# Altium integrated library Xilinx XC4000XL.IntLib: 450 symbols (part 6 of 58)
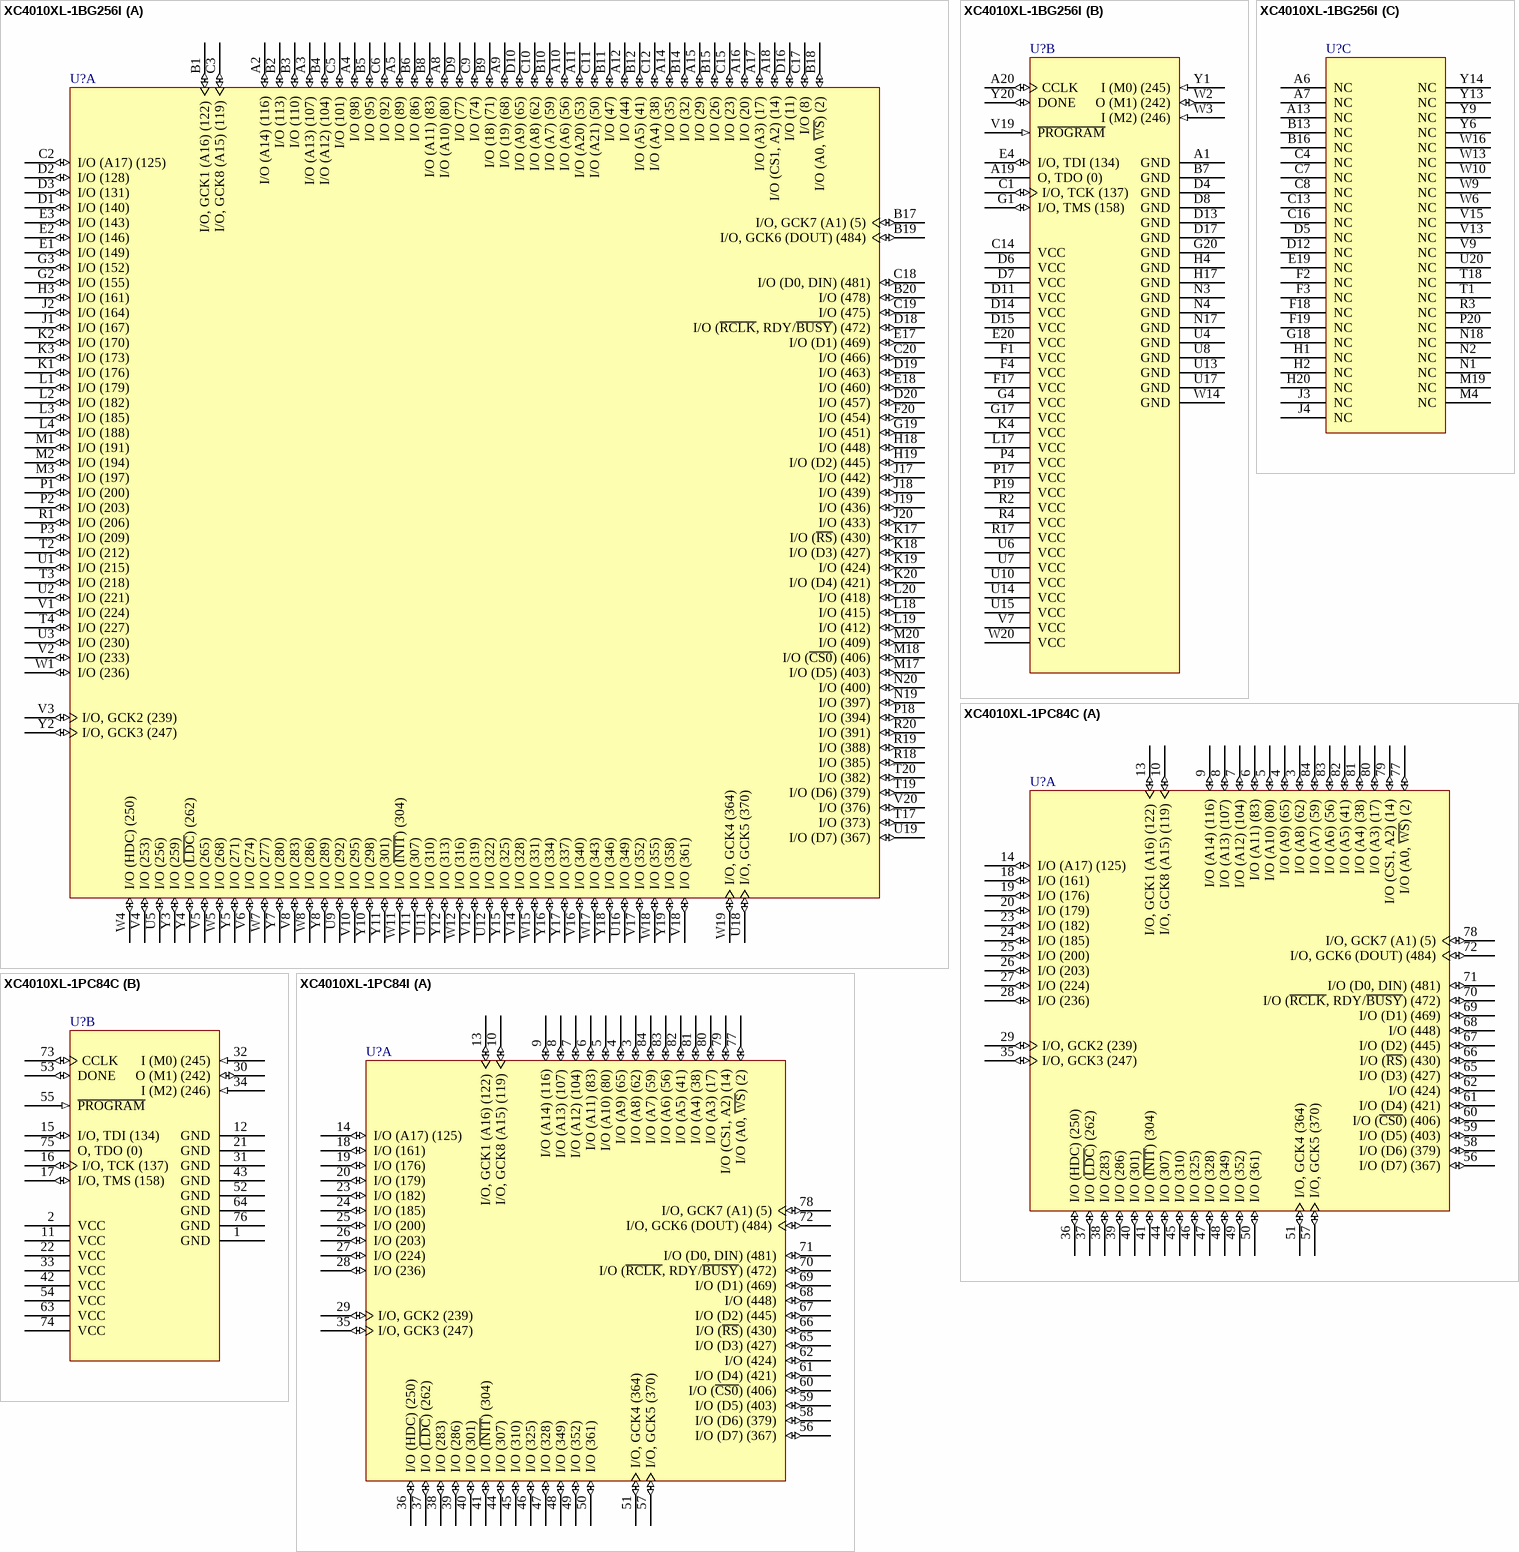
[diagram p404: symbols XC4010XL-1BG256I to XC4010XL-1PC84I]

## XC4010XL-1PC84C
designator U?
XC4000XL FPGA, 61 I/Os, 84-Pin PLCC, Speed Grade 1, Commercial Grade; Published: 28-Feb-2003; LatestRevisionDate: 13-Apr-2006; LatestRevisionNote: IPC-7351 Footprint Added.; DatasheetVersion: ver1.6, May-1999; PackageVersion: ver1.2, Jun-2004; PackageReference: PC84; Publisher: Altium Limited; PackageDescription: 84-Pin Plastic Leaded Chip Carrier (PC84); Supplier 1: Digi-Key; Supplier Part Number 1: XC4010XL-1PC84C-ND; Code_JEDEC: MS-047; Code_IPC: PLCC-84; ComponentLink1Description: XC4000XL Datasheet; ComponentLink1URL: http://www.xilinx.com/support/documentation/data_sheets/4000.pdf; ComponentLink2Description: Discontinuation Notice; ComponentLink2URL: http://www.xilinx.com/support/documentation/customer_notices/pdn2004-21.pdf; ComponentLink3Description: PC84 Package Drawing; ComponentLink3URL: http://www.xilinx.com/support/documentation/package_specs/pc84.pdf; ComponentLink4Description: XC4000 Documents; ComponentLink4URL: http://www.xilinx.com/support/documentation/xc4000.htm; ComponentLink5Description: Xilinx.com Home; ComponentLink5URL: http://www.xilinx.com
footprint PC84_N (Leaded Chip Carrier, 84-Leads, Body 29.3x29.3mm, Pitch 1.27mm, IPC Medium Density)
footprint PC84_L (Leaded Chip Carrier, 84-Leads, Body 29.3x29.3mm, Pitch 1.27mm, IPC High Density)
footprint PC84_M (Leaded Chip Carrier, 84-Leads, Body 29.3x29.3mm, Pitch 1.27mm, IPC Low Density)
part A pins: 3 I/O (A8) (62) (io), 4 I/O (A9) (65) (io), 5 I/O (A10) (80) (io), 6 I/O (A11) (83) (io), 7 I/O (A12) (104) (io), 8 I/O (A13) (107) (io), 9 I/O (A14) (116) (io), 10 I/O, GCK8 (A15) (119) (io), 13 I/O, GCK1 (A16) (122) (io), 14 I/O (A17) (125) (io), 18 I/O (161) (io), 19 I/O (176) (io), 20 I/O (179) (io), 23 I/O (182) (io), 24 I/O (185) (io), 25 I/O (200) (io), 26 I/O (203) (io), 27 I/O (224) (io), 28 I/O (236) (io), 29 I/O, GCK2 (239) (io), 35 I/O, GCK3 (247) (io), 36 I/O (HDC) (250) (io), 37 I/O (~{LDC}) (262) (io), 38 I/O (283) (io), 39 I/O (286) (io), 40 I/O (301) (io), 41 I/O (~{INIT}) (304) (io), 44 I/O (307) (io), 45 I/O (310) (io), 46 I/O (325) (io), 47 I/O (328) (io), 48 I/O (349) (io), 49 I/O (352) (io), 50 I/O (361) (io), 51 I/O, GCK4 (364) (io), 56 I/O (D7) (367) (io), 57 I/O, GCK5 (370) (io), 58 I/O (D6) (379) (io), 59 I/O (D5) (403) (io), 60 I/O (~{CS0}) (406) (io), 61 I/O (D4) (421) (io), 62 I/O (424) (io), 65 I/O (D3) (427) (io), 66 I/O (~{RS}) (430) (io), 67 I/O (D2) (445) (io), 68 I/O (448) (io), 69 I/O (D1) (469) (io), 70 I/O (~{RCLK}, RDY/~{BUSY}) (472) (io), 71 I/O (D0, DIN) (481) (io), 72 I/O, GCK6 (DOUT) (484) (io), 77 I/O (A0, ~{WS}) (2) (io), 78 I/O, GCK7 (A1) (5) (io), 79 I/O (CS1, A2) (14) (io), 80 I/O (A3) (17) (io), 81 I/O (A4) (38) (io), 82 I/O (A5) (41) (io), 83 I/O (A6) (56) (io), 84 I/O (A7) (59) (io)
part B pins: 1 GND (power), 2 VCC (power), 11 VCC (power), 12 GND (power), 15 I/O, TDI (134) (io), 16 I/O, TCK (137) (io), 17 I/O, TMS (158) (io), 21 GND (power), 22 VCC (power), 30 O (M1) (242) (io), 31 GND (power), 32 I (M0) (245) (in), 33 VCC (power), 34 I (M2) (246) (in), 42 VCC (power), 43 GND (power), 52 GND (power), 53 DONE (io), 54 VCC (power), 55 ~{PROGRAM} (in), 63 VCC (power), 64 GND (power), 73 CCLK (io), 74 VCC (power), 75 O, TDO (0) (hiz), 76 GND (power)

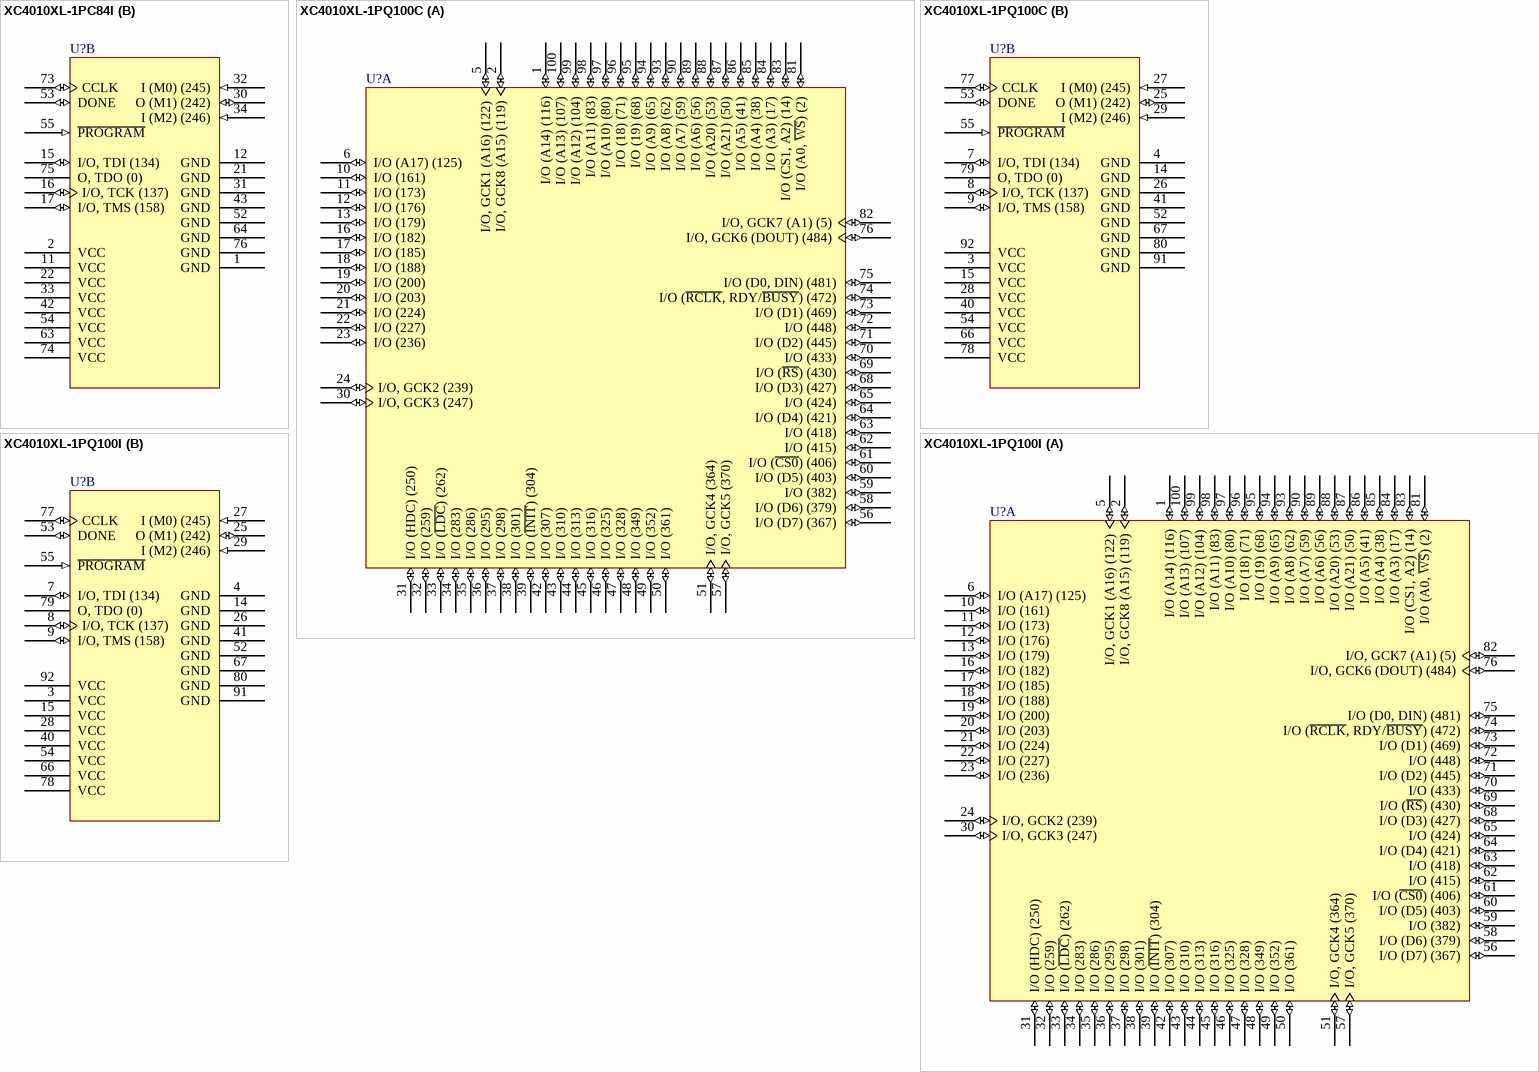
[diagram p29: symbols XC4010XL-1PC84I to XC4010XL-1PQ100I]

## XC4010XL-1PC84I
designator U?
XC4000XL FPGA, 61 I/Os, 84-Pin PLCC, Speed Grade 1, Industrial Grade; Published: 28-Feb-2003; LatestRevisionDate: 13-Apr-2006; LatestRevisionNote: IPC-7351 Footprint Added.; DatasheetVersion: ver1.6, May-1999; PackageVersion: ver1.2, Jun-2004; PackageReference: PC84; Publisher: Altium Limited; PackageDescription: 84-Pin Plastic Leaded Chip Carrier (PC84); Supplier 1: Digi-Key; Supplier Part Number 1: XC4010XL-1PC84I-ND; Code_JEDEC: MS-047; Code_IPC: PLCC-84; ComponentLink1Description: XC4000XL Datasheet; ComponentLink1URL: http://www.xilinx.com/support/documentation/data_sheets/4000.pdf; ComponentLink2Description: Discontinuation Notice; ComponentLink2URL: http://www.xilinx.com/support/documentation/customer_notices/pdn2004-21.pdf; ComponentLink3Description: PC84 Package Drawing; ComponentLink3URL: http://www.xilinx.com/support/documentation/package_specs/pc84.pdf; ComponentLink4Description: XC4000 Documents; ComponentLink4URL: http://www.xilinx.com/support/documentation/xc4000.htm; ComponentLink5Description: Xilinx.com Home; ComponentLink5URL: http://www.xilinx.com
footprint PC84_N (Leaded Chip Carrier, 84-Leads, Body 29.3x29.3mm, Pitch 1.27mm, IPC Medium Density)
footprint PC84_L (Leaded Chip Carrier, 84-Leads, Body 29.3x29.3mm, Pitch 1.27mm, IPC High Density)
footprint PC84_M (Leaded Chip Carrier, 84-Leads, Body 29.3x29.3mm, Pitch 1.27mm, IPC Low Density)
part A pins: 3 I/O (A8) (62) (io), 4 I/O (A9) (65) (io), 5 I/O (A10) (80) (io), 6 I/O (A11) (83) (io), 7 I/O (A12) (104) (io), 8 I/O (A13) (107) (io), 9 I/O (A14) (116) (io), 10 I/O, GCK8 (A15) (119) (io), 13 I/O, GCK1 (A16) (122) (io), 14 I/O (A17) (125) (io), 18 I/O (161) (io), 19 I/O (176) (io), 20 I/O (179) (io), 23 I/O (182) (io), 24 I/O (185) (io), 25 I/O (200) (io), 26 I/O (203) (io), 27 I/O (224) (io), 28 I/O (236) (io), 29 I/O, GCK2 (239) (io), 35 I/O, GCK3 (247) (io), 36 I/O (HDC) (250) (io), 37 I/O (~{LDC}) (262) (io), 38 I/O (283) (io), 39 I/O (286) (io), 40 I/O (301) (io), 41 I/O (~{INIT}) (304) (io), 44 I/O (307) (io), 45 I/O (310) (io), 46 I/O (325) (io), 47 I/O (328) (io), 48 I/O (349) (io), 49 I/O (352) (io), 50 I/O (361) (io), 51 I/O, GCK4 (364) (io), 56 I/O (D7) (367) (io), 57 I/O, GCK5 (370) (io), 58 I/O (D6) (379) (io), 59 I/O (D5) (403) (io), 60 I/O (~{CS0}) (406) (io), 61 I/O (D4) (421) (io), 62 I/O (424) (io), 65 I/O (D3) (427) (io), 66 I/O (~{RS}) (430) (io), 67 I/O (D2) (445) (io), 68 I/O (448) (io), 69 I/O (D1) (469) (io), 70 I/O (~{RCLK}, RDY/~{BUSY}) (472) (io), 71 I/O (D0, DIN) (481) (io), 72 I/O, GCK6 (DOUT) (484) (io), 77 I/O (A0, ~{WS}) (2) (io), 78 I/O, GCK7 (A1) (5) (io), 79 I/O (CS1, A2) (14) (io), 80 I/O (A3) (17) (io), 81 I/O (A4) (38) (io), 82 I/O (A5) (41) (io), 83 I/O (A6) (56) (io), 84 I/O (A7) (59) (io)
part B pins: 1 GND (power), 2 VCC (power), 11 VCC (power), 12 GND (power), 15 I/O, TDI (134) (io), 16 I/O, TCK (137) (io), 17 I/O, TMS (158) (io), 21 GND (power), 22 VCC (power), 30 O (M1) (242) (io), 31 GND (power), 32 I (M0) (245) (in), 33 VCC (power), 34 I (M2) (246) (in), 42 VCC (power), 43 GND (power), 52 GND (power), 53 DONE (io), 54 VCC (power), 55 ~{PROGRAM} (in), 63 VCC (power), 64 GND (power), 73 CCLK (io), 74 VCC (power), 75 O, TDO (0) (hiz), 76 GND (power)

## XC4010XL-1PQ100C
designator U?
XC4000XL FPGA, 77 I/Os, 100-Pin PQFP, Speed Grade 1, Commercial Grade; Published: 28-Feb-2003; LatestRevisionDate: 13-Apr-2006; LatestRevisionNote: IPC-7351 Footprint Added.; DatasheetVersion: ver1.6, May-1999; PackageVersion: ver1.2, Oct-2002; PackageReference: PQ100; Publisher: Altium Limited; PackageDescription: 100-Pin Plastic Quad Flat Pack (PQ100); Supplier 1: Digi-Key; Supplier Part Number 1: XC4010XL-1PQ100C-ND; Code_IPC: QFP65P1720X2320-100; ComponentLink1Description: XC4000XL Datasheet; ComponentLink1URL: http://www.xilinx.com/support/documentation/data_sheets/4000.pdf; ComponentLink2Description: PQ100 Package Drawing; ComponentLink2URL: http://www.xilinx.com/support/documentation/package_specs/pq100.pdf; ComponentLink3Description: XC4000 Documents; ComponentLink3URL: http://www.xilinx.com/support/documentation/xc4000.htm; ComponentLink4Description: Xilinx.com Home; ComponentLink4URL: http://www.xilinx.com
footprint PQ100_N (QFP, 100-Leads, Body 20x14mm, Pitch 0.65mm, IPC Medium Density)
footprint PQ100_L (QFP, 100-Leads, Body 20x14mm, Pitch 0.65mm, IPC High Density)
footprint PQ100_M (QFP, 100-Leads, Body 20x14mm, Pitch 0.65mm, IPC Low Density)
part A pins: 1 I/O (A14) (116) (io), 2 I/O, GCK8 (A15) (119) (io), 5 I/O, GCK1 (A16) (122) (io), 6 I/O (A17) (125) (io), 10 I/O (161) (io), 11 I/O (173) (io), 12 I/O (176) (io), 13 I/O (179) (io), 16 I/O (182) (io), 17 I/O (185) (io), 18 I/O (188) (io), 19 I/O (200) (io), 20 I/O (203) (io), 21 I/O (224) (io), 22 I/O (227) (io), 23 I/O (236) (io), 24 I/O, GCK2 (239) (io), 30 I/O, GCK3 (247) (io), 31 I/O (HDC) (250) (io), 32 I/O (259) (io), 33 I/O (~{LDC}) (262) (io), 34 I/O (283) (io), 35 I/O (286) (io), 36 I/O (295) (io), 37 I/O (298) (io), 38 I/O (301) (io), 39 I/O (~{INIT}) (304) (io), 42 I/O (307) (io), 43 I/O (310) (io), 44 I/O (313) (io), 45 I/O (316) (io), 46 I/O (325) (io), 47 I/O (328) (io), 48 I/O (349) (io), 49 I/O (352) (io), 50 I/O (361) (io), 51 I/O, GCK4 (364) (io), 56 I/O (D7) (367) (io), 57 I/O, GCK5 (370) (io), 58 I/O (D6) (379) (io), 59 I/O (382) (io), 60 I/O (D5) (403) (io), 61 I/O (~{CS0}) (406) (io), 62 I/O (415) (io), 63 I/O (418) (io), 64 I/O (D4) (421) (io), 65 I/O (424) (io), 68 I/O (D3) (427) (io), 69 I/O (~{RS}) (430) (io), 70 I/O (433) (io), 71 I/O (D2) (445) (io), 72 I/O (448) (io), 73 I/O (D1) (469) (io), 74 I/O (~{RCLK}, RDY/~{BUSY}) (472) (io), 75 I/O (D0, DIN) (481) (io), 76 I/O, GCK6 (DOUT) (484) (io), 81 I/O (A0, ~{WS}) (2) (io), 82 I/O, GCK7 (A1) (5) (io), 83 I/O (CS1, A2) (14) (io), 84 I/O (A3) (17) (io), 85 I/O (A4) (38) (io), 86 I/O (A5) (41) (io), 87 I/O (A21) (50) (io), 88 I/O (A20) (53) (io), 89 I/O (A6) (56) (io), 90 I/O (A7) (59) (io), 93 I/O (A8) (62) (io), 94 I/O (A9) (65) (io), 95 I/O (19) (68) (io), 96 I/O (18) (71) (io), 97 I/O (A10) (80) (io), 98 I/O (A11) (83) (io), 99 I/O (A12) (104) (io), 100 I/O (A13) (107) (io)
part B pins: 3 VCC (power), 4 GND (power), 7 I/O, TDI (134) (io), 8 I/O, TCK (137) (io), 9 I/O, TMS (158) (io), 14 GND (power), 15 VCC (power), 25 O (M1) (242) (io), 26 GND (power), 27 I (M0) (245) (in), 28 VCC (power), 29 I (M2) (246) (in), 40 VCC (power), 41 GND (power), 52 GND (power), 53 DONE (io), 54 VCC (power), 55 ~{PROGRAM} (in), 66 VCC (power), 67 GND (power), 77 CCLK (io), 78 VCC (power), 79 O, TDO (0) (hiz), 80 GND (power), 91 GND (power), 92 VCC (power)

## XC4010XL-1PQ100I
designator U?
XC4000XL FPGA, 77 I/Os, 100-Pin PQFP, Speed Grade 1, Industrial Grade; Published: 28-Feb-2003; LatestRevisionDate: 13-Apr-2006; LatestRevisionNote: IPC-7351 Footprint Added.; DatasheetVersion: ver1.6, May-1999; PackageVersion: ver1.2, Oct-2002; PackageReference: PQ100; Publisher: Altium Limited; PackageDescription: 100-Pin Plastic Quad Flat Pack (PQ100); Supplier 1: Digi-Key; Supplier Part Number 1: XC4010XL-1PQ100I-ND; Code_IPC: QFP65P1720X2320-100; ComponentLink1Description: XC4000XL Datasheet; ComponentLink1URL: http://www.xilinx.com/support/documentation/data_sheets/4000.pdf; ComponentLink2Description: PQ100 Package Drawing; ComponentLink2URL: http://www.xilinx.com/support/documentation/package_specs/pq100.pdf; ComponentLink3Description: XC4000 Documents; ComponentLink3URL: http://www.xilinx.com/support/documentation/xc4000.htm; ComponentLink4Description: Xilinx.com Home; ComponentLink4URL: http://www.xilinx.com
footprint PQ100_N (QFP, 100-Leads, Body 20x14mm, Pitch 0.65mm, IPC Medium Density)
footprint PQ100_L (QFP, 100-Leads, Body 20x14mm, Pitch 0.65mm, IPC High Density)
footprint PQ100_M (QFP, 100-Leads, Body 20x14mm, Pitch 0.65mm, IPC Low Density)
part A pins: 1 I/O (A14) (116) (io), 2 I/O, GCK8 (A15) (119) (io), 5 I/O, GCK1 (A16) (122) (io), 6 I/O (A17) (125) (io), 10 I/O (161) (io), 11 I/O (173) (io), 12 I/O (176) (io), 13 I/O (179) (io), 16 I/O (182) (io), 17 I/O (185) (io), 18 I/O (188) (io), 19 I/O (200) (io), 20 I/O (203) (io), 21 I/O (224) (io), 22 I/O (227) (io), 23 I/O (236) (io), 24 I/O, GCK2 (239) (io), 30 I/O, GCK3 (247) (io), 31 I/O (HDC) (250) (io), 32 I/O (259) (io), 33 I/O (~{LDC}) (262) (io), 34 I/O (283) (io), 35 I/O (286) (io), 36 I/O (295) (io), 37 I/O (298) (io), 38 I/O (301) (io), 39 I/O (~{INIT}) (304) (io), 42 I/O (307) (io), 43 I/O (310) (io), 44 I/O (313) (io), 45 I/O (316) (io), 46 I/O (325) (io), 47 I/O (328) (io), 48 I/O (349) (io), 49 I/O (352) (io), 50 I/O (361) (io), 51 I/O, GCK4 (364) (io), 56 I/O (D7) (367) (io), 57 I/O, GCK5 (370) (io), 58 I/O (D6) (379) (io), 59 I/O (382) (io), 60 I/O (D5) (403) (io), 61 I/O (~{CS0}) (406) (io), 62 I/O (415) (io), 63 I/O (418) (io), 64 I/O (D4) (421) (io), 65 I/O (424) (io), 68 I/O (D3) (427) (io), 69 I/O (~{RS}) (430) (io), 70 I/O (433) (io), 71 I/O (D2) (445) (io), 72 I/O (448) (io), 73 I/O (D1) (469) (io), 74 I/O (~{RCLK}, RDY/~{BUSY}) (472) (io), 75 I/O (D0, DIN) (481) (io), 76 I/O, GCK6 (DOUT) (484) (io), 81 I/O (A0, ~{WS}) (2) (io), 82 I/O, GCK7 (A1) (5) (io), 83 I/O (CS1, A2) (14) (io), 84 I/O (A3) (17) (io), 85 I/O (A4) (38) (io), 86 I/O (A5) (41) (io), 87 I/O (A21) (50) (io), 88 I/O (A20) (53) (io), 89 I/O (A6) (56) (io), 90 I/O (A7) (59) (io), 93 I/O (A8) (62) (io), 94 I/O (A9) (65) (io), 95 I/O (19) (68) (io), 96 I/O (18) (71) (io), 97 I/O (A10) (80) (io), 98 I/O (A11) (83) (io), 99 I/O (A12) (104) (io), 100 I/O (A13) (107) (io)
part B pins: 3 VCC (power), 4 GND (power), 7 I/O, TDI (134) (io), 8 I/O, TCK (137) (io), 9 I/O, TMS (158) (io), 14 GND (power), 15 VCC (power), 25 O (M1) (242) (io), 26 GND (power), 27 I (M0) (245) (in), 28 VCC (power), 29 I (M2) (246) (in), 40 VCC (power), 41 GND (power), 52 GND (power), 53 DONE (io), 54 VCC (power), 55 ~{PROGRAM} (in), 66 VCC (power), 67 GND (power), 77 CCLK (io), 78 VCC (power), 79 O, TDO (0) (hiz), 80 GND (power), 91 GND (power), 92 VCC (power)

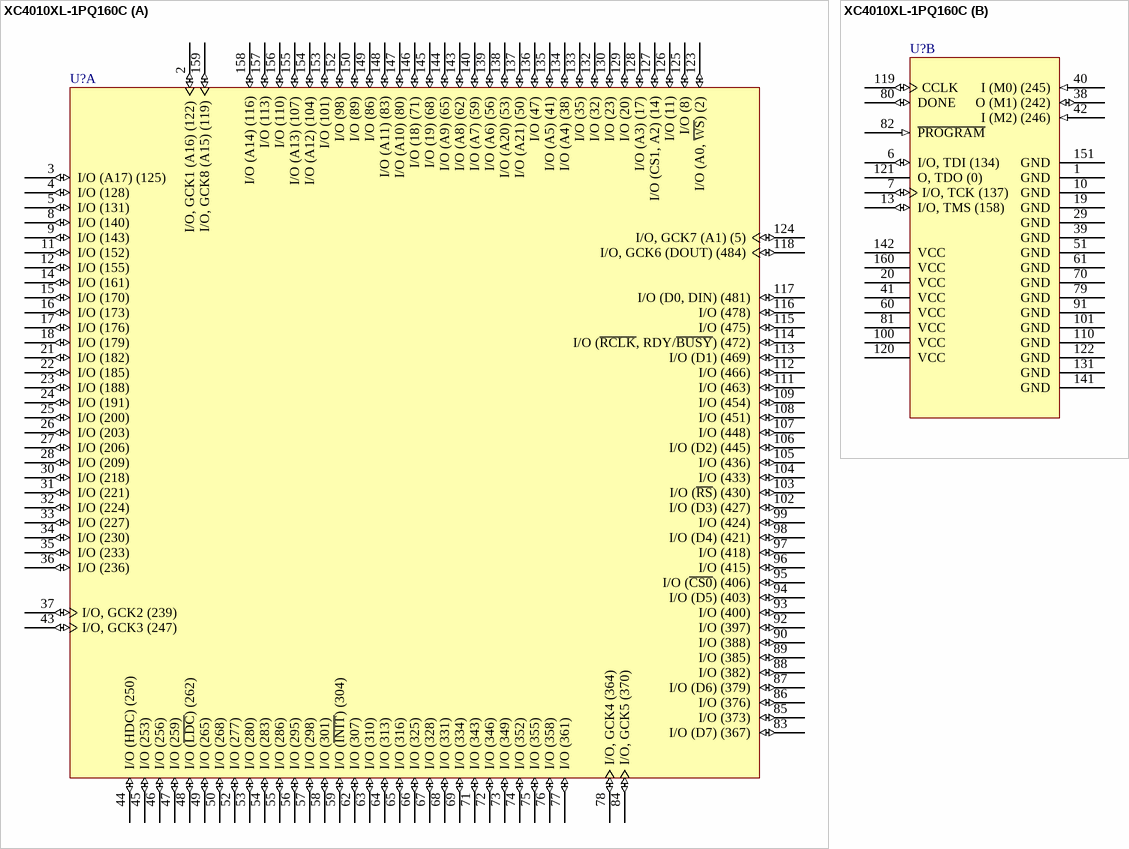
[diagram p30: symbol XC4010XL-1PQ160C]

## XC4010XL-1PQ160C
designator U?
XC4000XL FPGA, 129 I/Os, 160-Pin PQFP, Speed Grade 1, Commercial Grade; Published: 28-Feb-2003; LatestRevisionDate: 13-Apr-2006; LatestRevisionNote: IPC-7351 Footprint Added.; DatasheetVersion: ver1.6, May-1999; PackageVersion: ver1.2, Jun-2004; PackageReference: PQ160; Publisher: Altium Limited; PackageDescription: 160-Pin Plastic Quad Flat Pack (PQ160); Supplier 1: Digi-Key; Supplier Part Number 1: XC4010XL-1PQ160C-ND; Code_JEDEC: MS-022-DD1; Code_IPC: QFP65P3120X3120-160; ComponentLink1Description: XC4000XL Datasheet; ComponentLink1URL: http://www.xilinx.com/support/documentation/data_sheets/4000.pdf; ComponentLink2Description: Discontinuation Notice; ComponentLink2URL: http://www.xilinx.com/support/documentation/customer_notices/pdn2004-21.pdf; ComponentLink3Description: PQ160 Package Drawing; ComponentLink3URL: http://www.xilinx.com/support/documentation/package_specs/pq160.pdf; ComponentLink4Description: XC4000 Documents; ComponentLink4URL: http://www.xilinx.com/support/documentation/xc4000.htm; ComponentLink5Description: Xilinx.com Home; ComponentLink5URL: http://www.xilinx.com
footprint PQ160_N (QFP, 160-Leads, Body 28x28mm, Pitch 0.65mm, IPC Medium Density)
footprint PQ160_L (QFP, 160-Leads, Body 28x28mm, Pitch 0.65mm, IPC High Density)
footprint PQ160_M (QFP, 160-Leads, Body 28x28mm, Pitch 0.65mm, IPC Low Density)
part A pins: 2 I/O, GCK1 (A16) (122) (io), 3 I/O (A17) (125) (io), 4 I/O (128) (io), 5 I/O (131) (io), 8 I/O (140) (io), 9 I/O (143) (io), 11 I/O (152) (io), 12 I/O (155) (io), 14 I/O (161) (io), 15 I/O (170) (io), 16 I/O (173) (io), 17 I/O (176) (io), 18 I/O (179) (io), 21 I/O (182) (io), 22 I/O (185) (io), 23 I/O (188) (io), 24 I/O (191) (io), 25 I/O (200) (io), 26 I/O (203) (io), 27 I/O (206) (io), 28 I/O (209) (io), 30 I/O (218) (io), 31 I/O (221) (io), 32 I/O (224) (io), 33 I/O (227) (io), 34 I/O (230) (io), 35 I/O (233) (io), 36 I/O (236) (io), 37 I/O, GCK2 (239) (io), 43 I/O, GCK3 (247) (io), 44 I/O (HDC) (250) (io), 45 I/O (253) (io), 46 I/O (256) (io), 47 I/O (259) (io), 48 I/O (~{LDC}) (262) (io), 49 I/O (265) (io), 50 I/O (268) (io), 52 I/O (277) (io), 53 I/O (280) (io), 54 I/O (283) (io), 55 I/O (286) (io), 56 I/O (295) (io), 57 I/O (298) (io), 58 I/O (301) (io), 59 I/O (~{INIT}) (304) (io), 62 I/O (307) (io), 63 I/O (310) (io), 64 I/O (313) (io), 65 I/O (316) (io), 66 I/O (325) (io), 67 I/O (328) (io), 68 I/O (331) (io), 69 I/O (334) (io), 71 I/O (343) (io), 72 I/O (346) (io), 73 I/O (349) (io), 74 I/O (352) (io), 75 I/O (355) (io), 76 I/O (358) (io), 77 I/O (361) (io), 78 I/O, GCK4 (364) (io), 83 I/O (D7) (367) (io), 84 I/O, GCK5 (370) (io), 85 I/O (373) (io), 86 I/O (376) (io), 87 I/O (D6) (379) (io), 88 I/O (382) (io), 89 I/O (385) (io), 90 I/O (388) (io), 92 I/O (397) (io), 93 I/O (400) (io), 94 I/O (D5) (403) (io), 95 I/O (~{CS0}) (406) (io), 96 I/O (415) (io), 97 I/O (418) (io), 98 I/O (D4) (421) (io), 99 I/O (424) (io), 102 I/O (D3) (427) (io), 103 I/O (~{RS}) (430) (io), 104 I/O (433) (io), 105 I/O (436) (io), 106 I/O (D2) (445) (io), 107 I/O (448) (io), 108 I/O (451) (io), 109 I/O (454) (io), 111 I/O (463) (io), 112 I/O (466) (io), 113 I/O (D1) (469) (io), 114 I/O (~{RCLK}, RDY/~{BUSY}) (472) (io), 115 I/O (475) (io), 116 I/O (478) (io), 117 I/O (D0, DIN) (481) (io), 118 I/O, GCK6 (DOUT) (484) (io), 123 I/O (A0, ~{WS}) (2) (io), 124 I/O, GCK7 (A1) (5) (io), 125 I/O (8) (io), 126 I/O (11) (io), 127 I/O (CS1, A2) (14) (io), 128 I/O (A3) (17) (io), 129 I/O (20) (io), 130 I/O (23) (io), 132 I/O (32) (io), 133 I/O (35) (io), 134 I/O (A4) (38) (io), 135 I/O (A5) (41) (io), 136 I/O (47) (io), 137 I/O (A21) (50) (io), 138 I/O (A20) (53) (io), 139 I/O (A6) (56) (io), 140 I/O (A7) (59) (io), 143 I/O (A8) (62) (io), 144 I/O (A9) (65) (io), 145 I/O (19) (68) (io), 146 I/O (18) (71) (io), 147 I/O (A10) (80) (io), 148 I/O (A11) (83) (io), 149 I/O (86) (io), 150 I/O (89) (io), 152 I/O (98) (io), 153 I/O (101) (io), 154 I/O (A12) (104) (io), 155 I/O (A13) (107) (io), 156 I/O (110) (io), 157 I/O (113) (io), 158 I/O (A14) (116) (io), 159 I/O, GCK8 (A15) (119) (io)
part B pins: 1 GND (power), 6 I/O, TDI (134) (io), 7 I/O, TCK (137) (io), 10 GND (power), 13 I/O, TMS (158) (io), 19 GND (power), 20 VCC (power), 29 GND (power), 38 O (M1) (242) (io), 39 GND (power), 40 I (M0) (245) (in), 41 VCC (power), 42 I (M2) (246) (in), 51 GND (power), 60 VCC (power), 61 GND (power), 70 GND (power), 79 GND (power), 80 DONE (io), 81 VCC (power), 82 ~{PROGRAM} (in), 91 GND (power), 100 VCC (power), 101 GND (power), 110 GND (power), 119 CCLK (io), 120 VCC (power), 121 O, TDO (0) (hiz), 122 GND (power), 131 GND (power), 141 GND (power), 142 VCC (power), 151 GND (power), 160 VCC (power)

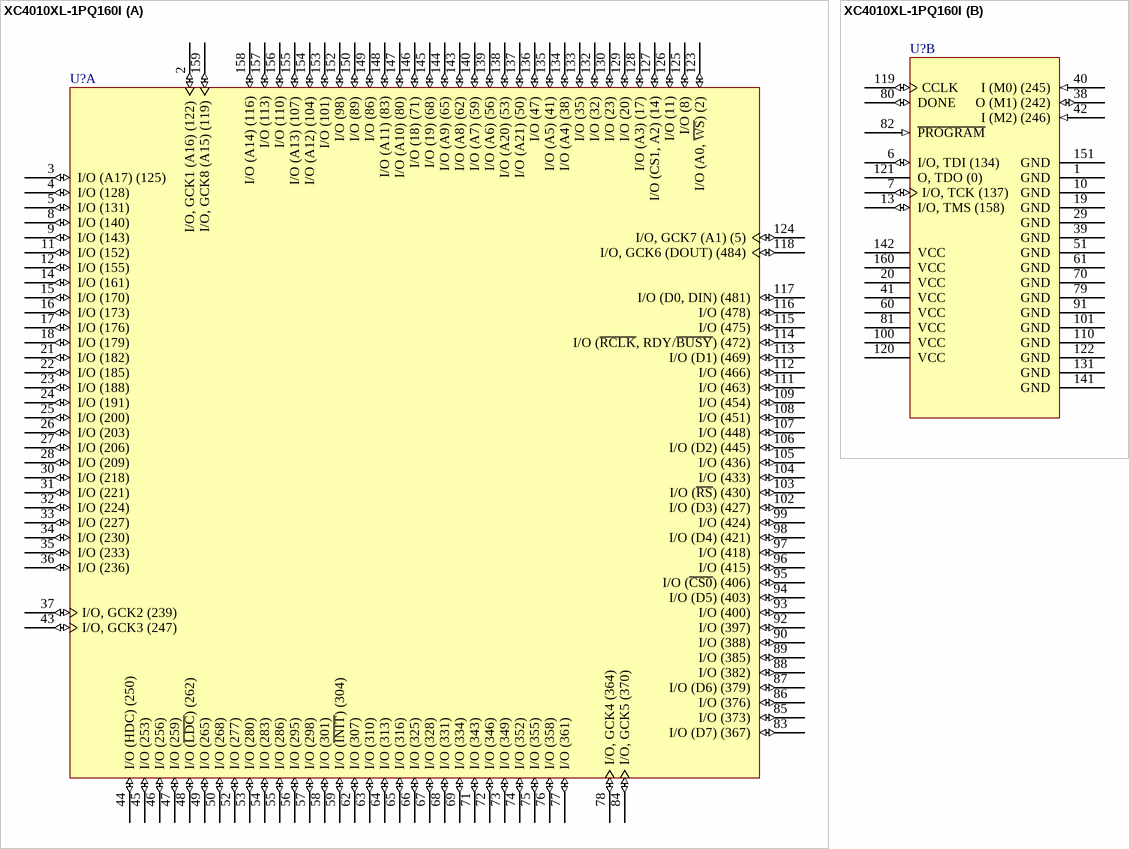
[diagram p31: symbol XC4010XL-1PQ160I]

## XC4010XL-1PQ160I
designator U?
XC4000XL FPGA, 129 I/Os, 160-Pin PQFP, Speed Grade 1, Industrial Grade; Published: 28-Feb-2003; LatestRevisionDate: 13-Apr-2006; LatestRevisionNote: IPC-7351 Footprint Added.; DatasheetVersion: ver1.6, May-1999; PackageVersion: ver1.2, Jun-2004; PackageReference: PQ160; Publisher: Altium Limited; PackageDescription: 160-Pin Plastic Quad Flat Pack (PQ160); Supplier 1: Digi-Key; Supplier Part Number 1: XC4010XL-1PQ160I-ND; Code_JEDEC: MS-022-DD1; Code_IPC: QFP65P3120X3120-160; ComponentLink1Description: XC4000XL Datasheet; ComponentLink1URL: http://www.xilinx.com/support/documentation/data_sheets/4000.pdf; ComponentLink2Description: Discontinuation Notice; ComponentLink2URL: http://www.xilinx.com/support/documentation/customer_notices/pdn2004-21.pdf; ComponentLink3Description: PQ160 Package Drawing; ComponentLink3URL: http://www.xilinx.com/support/documentation/package_specs/pq160.pdf; ComponentLink4Description: XC4000 Documents; ComponentLink4URL: http://www.xilinx.com/support/documentation/xc4000.htm; ComponentLink5Description: Xilinx.com Home; ComponentLink5URL: http://www.xilinx.com
footprint PQ160_N (QFP, 160-Leads, Body 28x28mm, Pitch 0.65mm, IPC Medium Density)
footprint PQ160_L (QFP, 160-Leads, Body 28x28mm, Pitch 0.65mm, IPC High Density)
footprint PQ160_M (QFP, 160-Leads, Body 28x28mm, Pitch 0.65mm, IPC Low Density)
part A pins: 2 I/O, GCK1 (A16) (122) (io), 3 I/O (A17) (125) (io), 4 I/O (128) (io), 5 I/O (131) (io), 8 I/O (140) (io), 9 I/O (143) (io), 11 I/O (152) (io), 12 I/O (155) (io), 14 I/O (161) (io), 15 I/O (170) (io), 16 I/O (173) (io), 17 I/O (176) (io), 18 I/O (179) (io), 21 I/O (182) (io), 22 I/O (185) (io), 23 I/O (188) (io), 24 I/O (191) (io), 25 I/O (200) (io), 26 I/O (203) (io), 27 I/O (206) (io), 28 I/O (209) (io), 30 I/O (218) (io), 31 I/O (221) (io), 32 I/O (224) (io), 33 I/O (227) (io), 34 I/O (230) (io), 35 I/O (233) (io), 36 I/O (236) (io), 37 I/O, GCK2 (239) (io), 43 I/O, GCK3 (247) (io), 44 I/O (HDC) (250) (io), 45 I/O (253) (io), 46 I/O (256) (io), 47 I/O (259) (io), 48 I/O (~{LDC}) (262) (io), 49 I/O (265) (io), 50 I/O (268) (io), 52 I/O (277) (io), 53 I/O (280) (io), 54 I/O (283) (io), 55 I/O (286) (io), 56 I/O (295) (io), 57 I/O (298) (io), 58 I/O (301) (io), 59 I/O (~{INIT}) (304) (io), 62 I/O (307) (io), 63 I/O (310) (io), 64 I/O (313) (io), 65 I/O (316) (io), 66 I/O (325) (io), 67 I/O (328) (io), 68 I/O (331) (io), 69 I/O (334) (io), 71 I/O (343) (io), 72 I/O (346) (io), 73 I/O (349) (io), 74 I/O (352) (io), 75 I/O (355) (io), 76 I/O (358) (io), 77 I/O (361) (io), 78 I/O, GCK4 (364) (io), 83 I/O (D7) (367) (io), 84 I/O, GCK5 (370) (io), 85 I/O (373) (io), 86 I/O (376) (io), 87 I/O (D6) (379) (io), 88 I/O (382) (io), 89 I/O (385) (io), 90 I/O (388) (io), 92 I/O (397) (io), 93 I/O (400) (io), 94 I/O (D5) (403) (io), 95 I/O (~{CS0}) (406) (io), 96 I/O (415) (io), 97 I/O (418) (io), 98 I/O (D4) (421) (io), 99 I/O (424) (io), 102 I/O (D3) (427) (io), 103 I/O (~{RS}) (430) (io), 104 I/O (433) (io), 105 I/O (436) (io), 106 I/O (D2) (445) (io), 107 I/O (448) (io), 108 I/O (451) (io), 109 I/O (454) (io), 111 I/O (463) (io), 112 I/O (466) (io), 113 I/O (D1) (469) (io), 114 I/O (~{RCLK}, RDY/~{BUSY}) (472) (io), 115 I/O (475) (io), 116 I/O (478) (io), 117 I/O (D0, DIN) (481) (io), 118 I/O, GCK6 (DOUT) (484) (io), 123 I/O (A0, ~{WS}) (2) (io), 124 I/O, GCK7 (A1) (5) (io), 125 I/O (8) (io), 126 I/O (11) (io), 127 I/O (CS1, A2) (14) (io), 128 I/O (A3) (17) (io), 129 I/O (20) (io), 130 I/O (23) (io), 132 I/O (32) (io), 133 I/O (35) (io), 134 I/O (A4) (38) (io), 135 I/O (A5) (41) (io), 136 I/O (47) (io), 137 I/O (A21) (50) (io), 138 I/O (A20) (53) (io), 139 I/O (A6) (56) (io), 140 I/O (A7) (59) (io), 143 I/O (A8) (62) (io), 144 I/O (A9) (65) (io), 145 I/O (19) (68) (io), 146 I/O (18) (71) (io), 147 I/O (A10) (80) (io), 148 I/O (A11) (83) (io), 149 I/O (86) (io), 150 I/O (89) (io), 152 I/O (98) (io), 153 I/O (101) (io), 154 I/O (A12) (104) (io), 155 I/O (A13) (107) (io), 156 I/O (110) (io), 157 I/O (113) (io), 158 I/O (A14) (116) (io), 159 I/O, GCK8 (A15) (119) (io)
part B pins: 1 GND (power), 6 I/O, TDI (134) (io), 7 I/O, TCK (137) (io), 10 GND (power), 13 I/O, TMS (158) (io), 19 GND (power), 20 VCC (power), 29 GND (power), 38 O (M1) (242) (io), 39 GND (power), 40 I (M0) (245) (in), 41 VCC (power), 42 I (M2) (246) (in), 51 GND (power), 60 VCC (power), 61 GND (power), 70 GND (power), 79 GND (power), 80 DONE (io), 81 VCC (power), 82 ~{PROGRAM} (in), 91 GND (power), 100 VCC (power), 101 GND (power), 110 GND (power), 119 CCLK (io), 120 VCC (power), 121 O, TDO (0) (hiz), 122 GND (power), 131 GND (power), 141 GND (power), 142 VCC (power), 151 GND (power), 160 VCC (power)

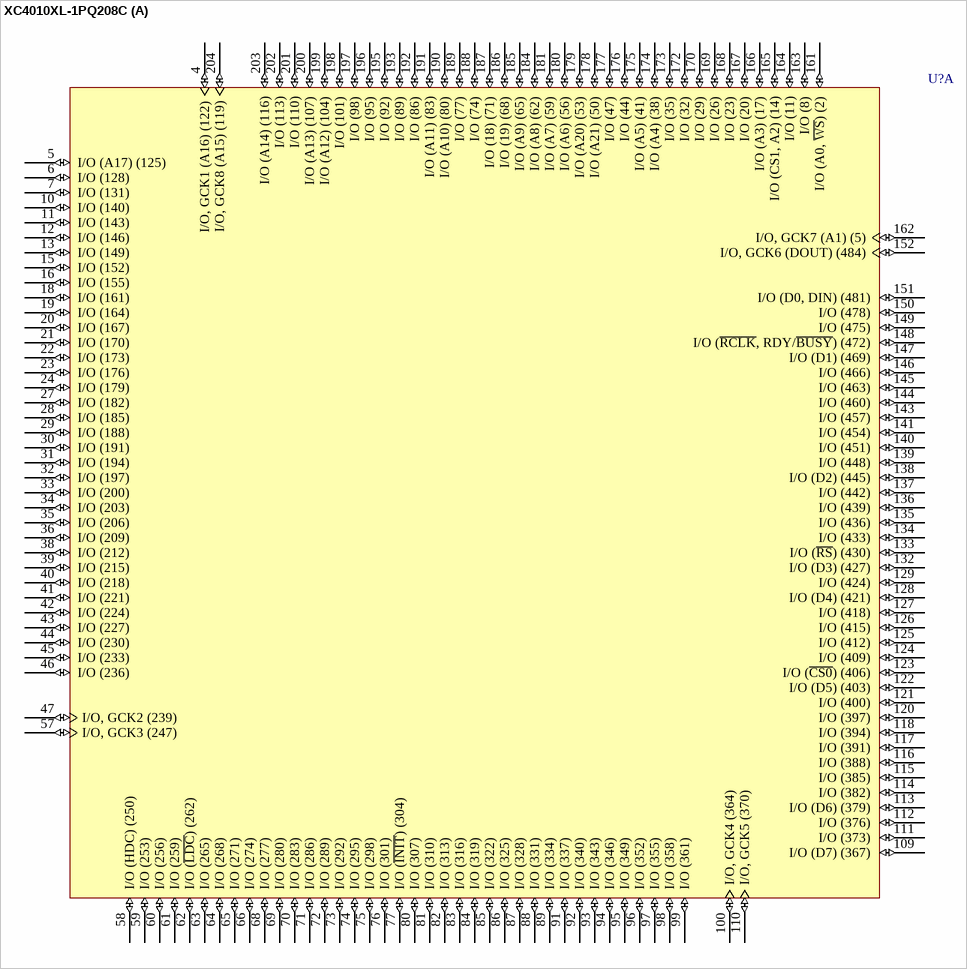
[diagram p32: symbol XC4010XL-1PQ208C]

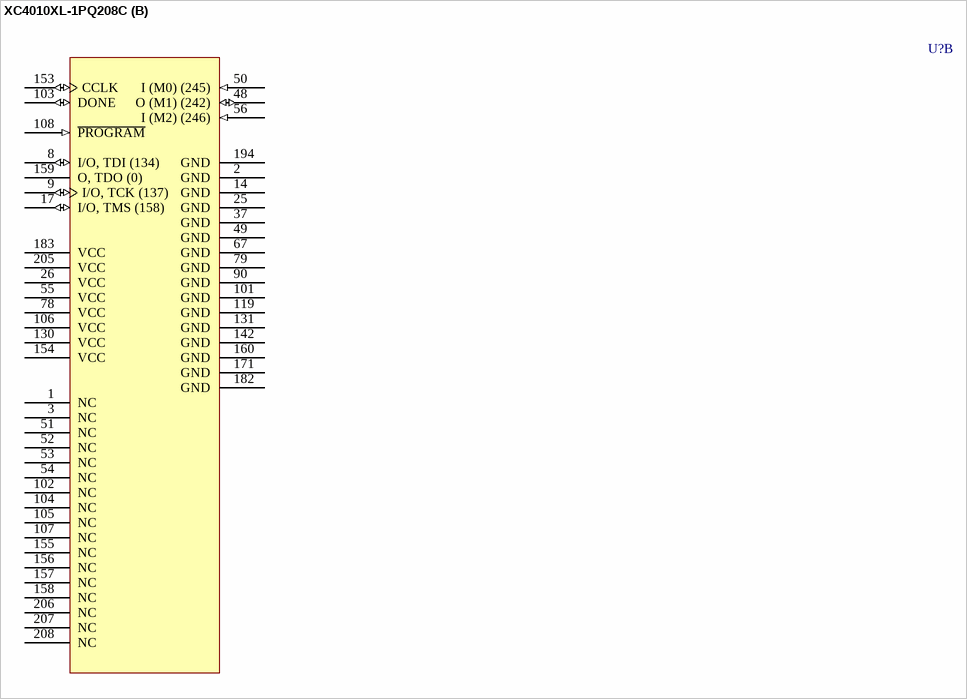
[diagram p33: symbol XC4010XL-1PQ208C]

## XC4010XL-1PQ208C
designator U?
XC4000XL FPGA, 160 I/Os, 208-Pin PQFP, Speed Grade 1, Commercial Grade; Published: 28-Feb-2003; LatestRevisionDate: 13-Apr-2006; LatestRevisionNote: IPC-7351 Footprint Added.; DatasheetVersion: ver1.6, May-1999; PackageVersion: ver1.2, Jun-2004; PackageReference: PQ208; Publisher: Altium Limited; PackageDescription: 208-Pin Plastic Quad Flat Pack (PQ208); Supplier 1: Digi-Key; Supplier Part Number 1: XC4010XL-1PQ208C-ND; Code_JEDEC: MS-029-FA-1; ComponentLink1Description: XC4000XL Datasheet; ComponentLink1URL: http://www.xilinx.com/support/documentation/data_sheets/4000.pdf; ComponentLink2Description: PQ208 Package Drawing; ComponentLink2URL: http://www.xilinx.com/support/documentation/package_specs/pq208.pdf; ComponentLink3Description: XC4000 Documents; ComponentLink3URL: http://www.xilinx.com/support/documentation/xc4000.htm; ComponentLink4Description: Xilinx.com Home; ComponentLink4URL: http://www.xilinx.com
footprint PQ208_N (Shrink QFP, 208-Leads, Body 28x28mm, Pitch 0.5mm, IPC Medium Density)
footprint PQ208_L (Shrink QFP, 208-Leads, Body 28x28mm, Pitch 0.5mm, IPC High Density)
footprint PQ208_M (Shrink QFP, 208-Leads, Body 28x28mm, Pitch 0.5mm, IPC Low Density)
part A pins: 4 I/O, GCK1 (A16) (122) (io), 5 I/O (A17) (125) (io), 6 I/O (128) (io), 7 I/O (131) (io), 10 I/O (140) (io), 11 I/O (143) (io), 12 I/O (146) (io), 13 I/O (149) (io), 15 I/O (152) (io), 16 I/O (155) (io), 18 I/O (161) (io), 19 I/O (164) (io), 20 I/O (167) (io), 21 I/O (170) (io), 22 I/O (173) (io), 23 I/O (176) (io), 24 I/O (179) (io), 27 I/O (182) (io), 28 I/O (185) (io), 29 I/O (188) (io), 30 I/O (191) (io), 31 I/O (194) (io), 32 I/O (197) (io), 33 I/O (200) (io), 34 I/O (203) (io), 35 I/O (206) (io), 36 I/O (209) (io), 38 I/O (212) (io), 39 I/O (215) (io), 40 I/O (218) (io), 41 I/O (221) (io), 42 I/O (224) (io), 43 I/O (227) (io), 44 I/O (230) (io), 45 I/O (233) (io), 46 I/O (236) (io), 47 I/O, GCK2 (239) (io), 57 I/O, GCK3 (247) (io), 58 I/O (HDC) (250) (io), 59 I/O (253) (io), 60 I/O (256) (io), 61 I/O (259) (io), 62 I/O (~{LDC}) (262) (io), 63 I/O (265) (io), 64 I/O (268) (io), 65 I/O (271) (io), 66 I/O (274) (io), 68 I/O (277) (io), 69 I/O (280) (io), 70 I/O (283) (io), 71 I/O (286) (io), 72 I/O (289) (io), 73 I/O (292) (io), 74 I/O (295) (io), 75 I/O (298) (io), 76 I/O (301) (io), 77 I/O (~{INIT}) (304) (io), 80 I/O (307) (io), 81 I/O (310) (io), 82 I/O (313) (io), 83 I/O (316) (io), 84 I/O (319) (io), 85 I/O (322) (io), 86 I/O (325) (io), 87 I/O (328) (io), 88 I/O (331) (io), 89 I/O (334) (io), 91 I/O (337) (io), 92 I/O (340) (io), 93 I/O (343) (io), 94 I/O (346) (io), 95 I/O (349) (io), 96 I/O (352) (io), 97 I/O (355) (io), 98 I/O (358) (io), 99 I/O (361) (io), 100 I/O, GCK4 (364) (io), 109 I/O (D7) (367) (io), 110 I/O, GCK5 (370) (io), 111 I/O (373) (io), 112 I/O (376) (io), 113 I/O (D6) (379) (io), 114 I/O (382) (io), 115 I/O (385) (io), 116 I/O (388) (io), 117 I/O (391) (io), 118 I/O (394) (io), 120 I/O (397) (io), 121 I/O (400) (io), 122 I/O (D5) (403) (io), 123 I/O (~{CS0}) (406) (io), 124 I/O (409) (io), 125 I/O (412) (io), 126 I/O (415) (io), 127 I/O (418) (io), 128 I/O (D4) (421) (io), 129 I/O (424) (io), 132 I/O (D3) (427) (io), 133 I/O (~{RS}) (430) (io), 134 I/O (433) (io), 135 I/O (436) (io), 136 I/O (439) (io), 137 I/O (442) (io), 138 I/O (D2) (445) (io), 139 I/O (448) (io), 140 I/O (451) (io), 141 I/O (454) (io), 143 I/O (457) (io), 144 I/O (460) (io), 145 I/O (463) (io), 146 I/O (466) (io), 147 I/O (D1) (469) (io), 148 I/O (~{RCLK}, RDY/~{BUSY}) (472) (io), 149 I/O (475) (io), 150 I/O (478) (io), 151 I/O (D0, DIN) (481) (io), 152 I/O, GCK6 (DOUT) (484) (io), 161 I/O (A0, ~{WS}) (2) (io), 162 I/O, GCK7 (A1) (5) (io), 163 I/O (8) (io), 164 I/O (11) (io), 165 I/O (CS1, A2) (14) (io), 166 I/O (A3) (17) (io), 167 I/O (20) (io), 168 I/O (23) (io), 169 I/O (26) (io), 170 I/O (29) (io), 172 I/O (32) (io), 173 I/O (35) (io), 174 I/O (A4) (38) (io), 175 I/O (A5) (41) (io), 176 I/O (44) (io), 177 I/O (47) (io), 178 I/O (A21) (50) (io), 179 I/O (A20) (53) (io), 180 I/O (A6) (56) (io), 181 I/O (A7) (59) (io), 184 I/O (A8) (62) (io), 185 I/O (A9) (65) (io), 186 I/O (19) (68) (io), 187 I/O (18) (71) (io), 188 I/O (74) (io), 189 I/O (77) (io), 190 I/O (A10) (80) (io), 191 I/O (A11) (83) (io), 192 I/O (86) (io), 193 I/O (89) (io), 195 I/O (92) (io), 196 I/O (95) (io), 197 I/O (98) (io), 198 I/O (101) (io), 199 I/O (A12) (104) (io), 200 I/O (A13) (107) (io), 201 I/O (110) (io), 202 I/O (113) (io), 203 I/O (A14) (116) (io), 204 I/O, GCK8 (A15) (119) (io)
part B pins: 1 NC, 2 GND (power), 3 NC, 8 I/O, TDI (134) (io), 9 I/O, TCK (137) (io), 14 GND (power), 17 I/O, TMS (158) (io), 25 GND (power), 26 VCC (power), 37 GND (power), 48 O (M1) (242) (io), 49 GND (power), 50 I (M0) (245) (in), 51 NC, 52 NC, 53 NC, 54 NC, 55 VCC (power), 56 I (M2) (246) (in), 67 GND (power), 78 VCC (power), 79 GND (power), 90 GND (power), 101 GND (power), 102 NC, 103 DONE (io), 104 NC, 105 NC, 106 VCC (power), 107 NC, 108 ~{PROGRAM} (in), 119 GND (power), 130 VCC (power), 131 GND (power), 142 GND (power), 153 CCLK (io), 154 VCC (power), 155 NC, 156 NC, 157 NC, 158 NC, 159 O, TDO (0) (hiz), 160 GND (power), 171 GND (power), 182 GND (power), 183 VCC (power), 194 GND (power), 205 VCC (power), 206 NC, 207 NC, 208 NC

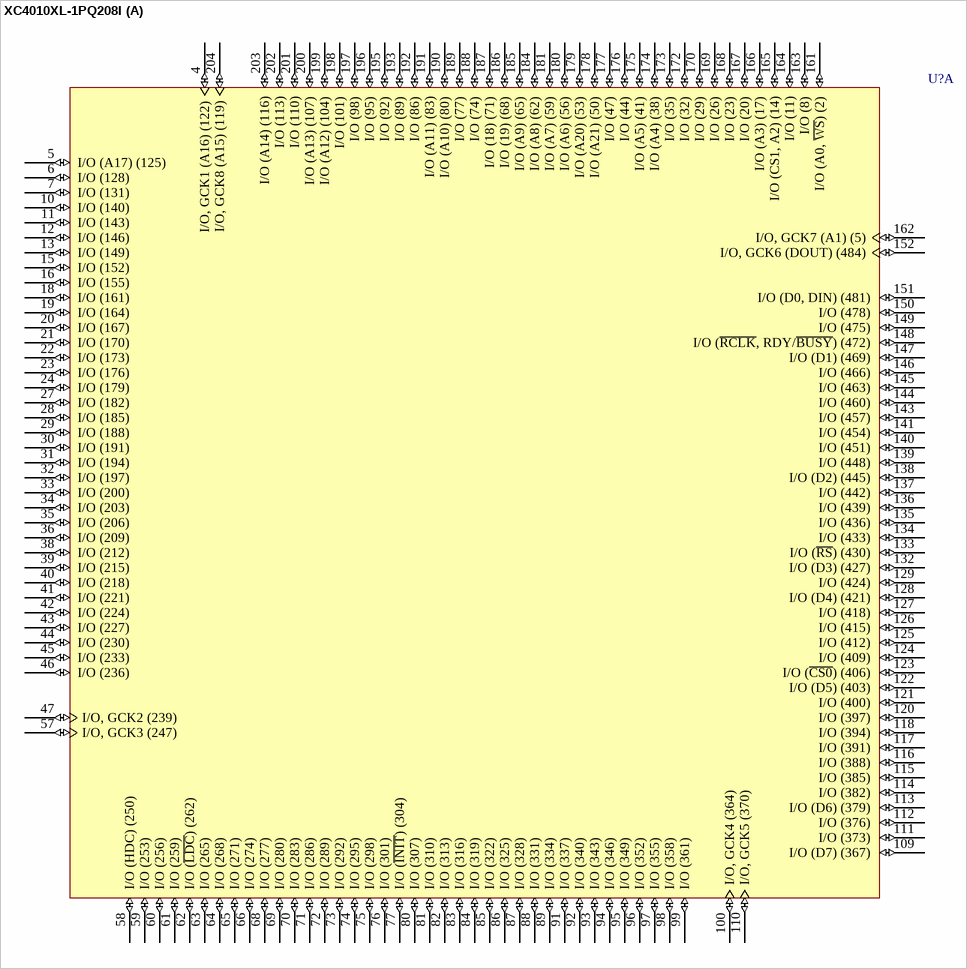
[diagram p34: symbol XC4010XL-1PQ208I]

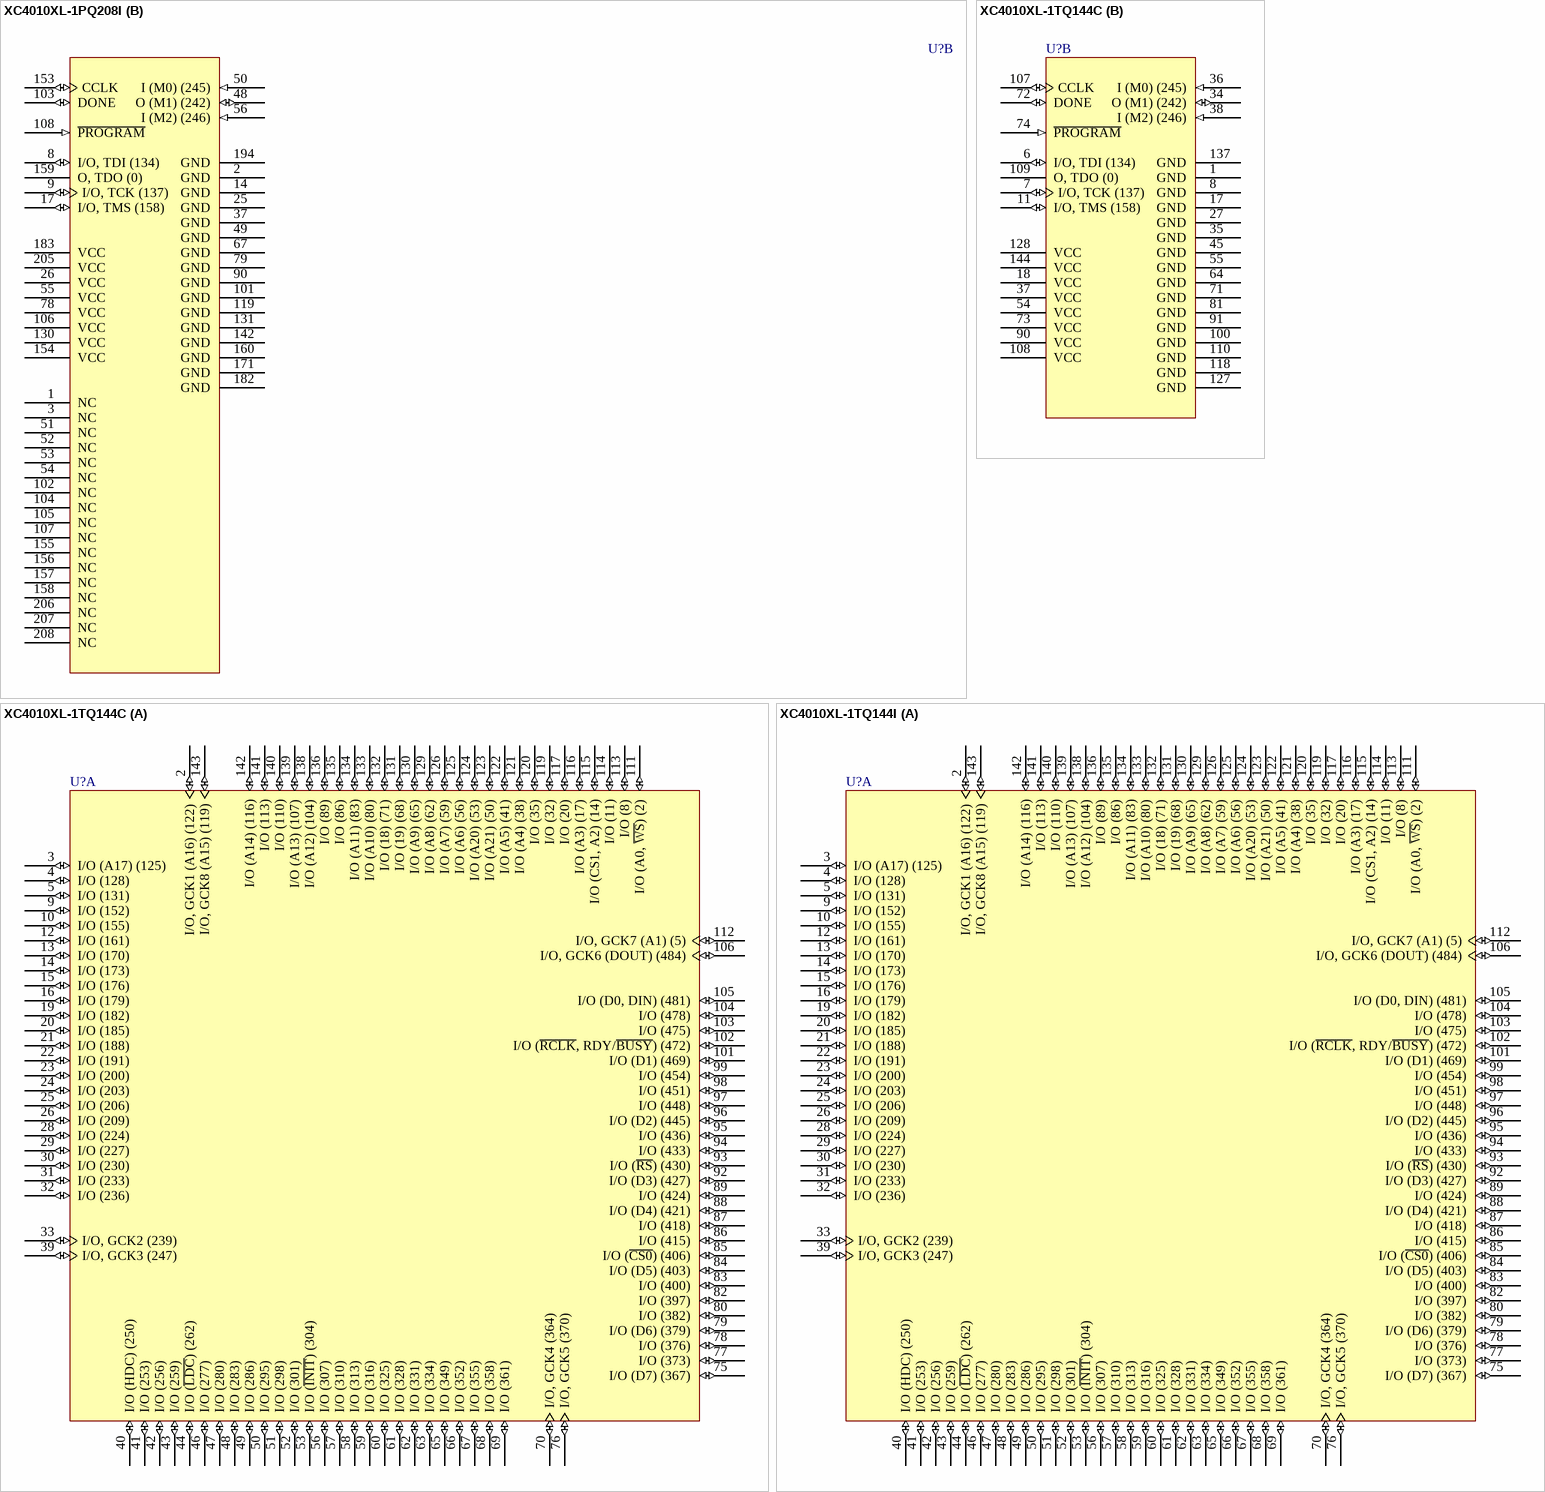
[diagram p35: symbols XC4010XL-1PQ208I to XC4010XL-1TQ144I]

## XC4010XL-1PQ208I
designator U?
XC4000XL FPGA, 160 I/Os, 208-Pin PQFP, Speed Grade 1, Industrial Grade; Published: 28-Feb-2003; LatestRevisionDate: 13-Apr-2006; LatestRevisionNote: IPC-7351 Footprint Added.; DatasheetVersion: ver1.6, May-1999; PackageVersion: ver1.2, Jun-2004; PackageReference: PQ208; Publisher: Altium Limited; PackageDescription: 208-Pin Plastic Quad Flat Pack (PQ208); Supplier 1: Digi-Key; Supplier Part Number 1: XC4010XL-1PQ208I-ND; Code_JEDEC: MS-029-FA-1; ComponentLink1Description: XC4000XL Datasheet; ComponentLink1URL: http://www.xilinx.com/support/documentation/data_sheets/4000.pdf; ComponentLink2Description: PQ208 Package Drawing; ComponentLink2URL: http://www.xilinx.com/support/documentation/package_specs/pq208.pdf; ComponentLink3Description: XC4000 Documents; ComponentLink3URL: http://www.xilinx.com/support/documentation/xc4000.htm; ComponentLink4Description: Xilinx.com Home; ComponentLink4URL: http://www.xilinx.com
footprint PQ208_N (Shrink QFP, 208-Leads, Body 28x28mm, Pitch 0.5mm, IPC Medium Density)
footprint PQ208_L (Shrink QFP, 208-Leads, Body 28x28mm, Pitch 0.5mm, IPC High Density)
footprint PQ208_M (Shrink QFP, 208-Leads, Body 28x28mm, Pitch 0.5mm, IPC Low Density)
part A pins: 4 I/O, GCK1 (A16) (122) (io), 5 I/O (A17) (125) (io), 6 I/O (128) (io), 7 I/O (131) (io), 10 I/O (140) (io), 11 I/O (143) (io), 12 I/O (146) (io), 13 I/O (149) (io), 15 I/O (152) (io), 16 I/O (155) (io), 18 I/O (161) (io), 19 I/O (164) (io), 20 I/O (167) (io), 21 I/O (170) (io), 22 I/O (173) (io), 23 I/O (176) (io), 24 I/O (179) (io), 27 I/O (182) (io), 28 I/O (185) (io), 29 I/O (188) (io), 30 I/O (191) (io), 31 I/O (194) (io), 32 I/O (197) (io), 33 I/O (200) (io), 34 I/O (203) (io), 35 I/O (206) (io), 36 I/O (209) (io), 38 I/O (212) (io), 39 I/O (215) (io), 40 I/O (218) (io), 41 I/O (221) (io), 42 I/O (224) (io), 43 I/O (227) (io), 44 I/O (230) (io), 45 I/O (233) (io), 46 I/O (236) (io), 47 I/O, GCK2 (239) (io), 57 I/O, GCK3 (247) (io), 58 I/O (HDC) (250) (io), 59 I/O (253) (io), 60 I/O (256) (io), 61 I/O (259) (io), 62 I/O (~{LDC}) (262) (io), 63 I/O (265) (io), 64 I/O (268) (io), 65 I/O (271) (io), 66 I/O (274) (io), 68 I/O (277) (io), 69 I/O (280) (io), 70 I/O (283) (io), 71 I/O (286) (io), 72 I/O (289) (io), 73 I/O (292) (io), 74 I/O (295) (io), 75 I/O (298) (io), 76 I/O (301) (io), 77 I/O (~{INIT}) (304) (io), 80 I/O (307) (io), 81 I/O (310) (io), 82 I/O (313) (io), 83 I/O (316) (io), 84 I/O (319) (io), 85 I/O (322) (io), 86 I/O (325) (io), 87 I/O (328) (io), 88 I/O (331) (io), 89 I/O (334) (io), 91 I/O (337) (io), 92 I/O (340) (io), 93 I/O (343) (io), 94 I/O (346) (io), 95 I/O (349) (io), 96 I/O (352) (io), 97 I/O (355) (io), 98 I/O (358) (io), 99 I/O (361) (io), 100 I/O, GCK4 (364) (io), 109 I/O (D7) (367) (io), 110 I/O, GCK5 (370) (io), 111 I/O (373) (io), 112 I/O (376) (io), 113 I/O (D6) (379) (io), 114 I/O (382) (io), 115 I/O (385) (io), 116 I/O (388) (io), 117 I/O (391) (io), 118 I/O (394) (io), 120 I/O (397) (io), 121 I/O (400) (io), 122 I/O (D5) (403) (io), 123 I/O (~{CS0}) (406) (io), 124 I/O (409) (io), 125 I/O (412) (io), 126 I/O (415) (io), 127 I/O (418) (io), 128 I/O (D4) (421) (io), 129 I/O (424) (io), 132 I/O (D3) (427) (io), 133 I/O (~{RS}) (430) (io), 134 I/O (433) (io), 135 I/O (436) (io), 136 I/O (439) (io), 137 I/O (442) (io), 138 I/O (D2) (445) (io), 139 I/O (448) (io), 140 I/O (451) (io), 141 I/O (454) (io), 143 I/O (457) (io), 144 I/O (460) (io), 145 I/O (463) (io), 146 I/O (466) (io), 147 I/O (D1) (469) (io), 148 I/O (~{RCLK}, RDY/~{BUSY}) (472) (io), 149 I/O (475) (io), 150 I/O (478) (io), 151 I/O (D0, DIN) (481) (io), 152 I/O, GCK6 (DOUT) (484) (io), 161 I/O (A0, ~{WS}) (2) (io), 162 I/O, GCK7 (A1) (5) (io), 163 I/O (8) (io), 164 I/O (11) (io), 165 I/O (CS1, A2) (14) (io), 166 I/O (A3) (17) (io), 167 I/O (20) (io), 168 I/O (23) (io), 169 I/O (26) (io), 170 I/O (29) (io), 172 I/O (32) (io), 173 I/O (35) (io), 174 I/O (A4) (38) (io), 175 I/O (A5) (41) (io), 176 I/O (44) (io), 177 I/O (47) (io), 178 I/O (A21) (50) (io), 179 I/O (A20) (53) (io), 180 I/O (A6) (56) (io), 181 I/O (A7) (59) (io), 184 I/O (A8) (62) (io), 185 I/O (A9) (65) (io), 186 I/O (19) (68) (io), 187 I/O (18) (71) (io), 188 I/O (74) (io), 189 I/O (77) (io), 190 I/O (A10) (80) (io), 191 I/O (A11) (83) (io), 192 I/O (86) (io), 193 I/O (89) (io), 195 I/O (92) (io), 196 I/O (95) (io), 197 I/O (98) (io), 198 I/O (101) (io), 199 I/O (A12) (104) (io), 200 I/O (A13) (107) (io), 201 I/O (110) (io), 202 I/O (113) (io), 203 I/O (A14) (116) (io), 204 I/O, GCK8 (A15) (119) (io)
part B pins: 1 NC, 2 GND (power), 3 NC, 8 I/O, TDI (134) (io), 9 I/O, TCK (137) (io), 14 GND (power), 17 I/O, TMS (158) (io), 25 GND (power), 26 VCC (power), 37 GND (power), 48 O (M1) (242) (io), 49 GND (power), 50 I (M0) (245) (in), 51 NC, 52 NC, 53 NC, 54 NC, 55 VCC (power), 56 I (M2) (246) (in), 67 GND (power), 78 VCC (power), 79 GND (power), 90 GND (power), 101 GND (power), 102 NC, 103 DONE (io), 104 NC, 105 NC, 106 VCC (power), 107 NC, 108 ~{PROGRAM} (in), 119 GND (power), 130 VCC (power), 131 GND (power), 142 GND (power), 153 CCLK (io), 154 VCC (power), 155 NC, 156 NC, 157 NC, 158 NC, 159 O, TDO (0) (hiz), 160 GND (power), 171 GND (power), 182 GND (power), 183 VCC (power), 194 GND (power), 205 VCC (power), 206 NC, 207 NC, 208 NC

## XC4010XL-1TQ144C
designator U?
XC4000XL FPGA, 113 I/Os, 144-Pin TQFP, Speed Grade 1, Commercial Grade; Published: 28-Feb-2003; LatestRevisionDate: 13-Apr-2006; LatestRevisionNote: IPC-7351 Footprint Added.; DatasheetVersion: ver1.6, May-1999; PackageVersion: ver1.2, Jun-2004; PackageReference: TQ144; Publisher: Altium Limited; PackageDescription: 144-Pin Thin Quad Flat Pack (TQ144); Supplier 1: Digi-Key; Supplier Part Number 1: XC4010XL-1TQ144C-ND; Code_JEDEC: MS-026-BFB; ComponentLink1Description: XC4000XL Datasheet; ComponentLink1URL: http://www.xilinx.com/support/documentation/data_sheets/4000.pdf; ComponentLink2Description: TQ144 Package Drawing; ComponentLink2URL: http://www.xilinx.com/support/documentation/package_specs/tq144.pdf; ComponentLink3Description: XC4000 Documents; ComponentLink3URL: http://www.xilinx.com/support/documentation/xc4000.htm; ComponentLink4Description: Xilinx.com Home; ComponentLink4URL: http://www.xilinx.com
footprint TQ144_N (Thin QFP, 144-Leads, Body 20x20mm, Pitch 0.5mm, IPC Medium Density)
footprint TQ144_L (Thin QFP, 144-Leads, Body 20x20mm, Pitch 0.5mm, IPC High Density)
footprint TQ144_M (Thin QFP, 144-Leads, Body 20x20mm, Pitch 0.5mm, IPC Low Density)
part A pins: 2 I/O, GCK1 (A16) (122) (io), 3 I/O (A17) (125) (io), 4 I/O (128) (io), 5 I/O (131) (io), 9 I/O (152) (io), 10 I/O (155) (io), 12 I/O (161) (io), 13 I/O (170) (io), 14 I/O (173) (io), 15 I/O (176) (io), 16 I/O (179) (io), 19 I/O (182) (io), 20 I/O (185) (io), 21 I/O (188) (io), 22 I/O (191) (io), 23 I/O (200) (io), 24 I/O (203) (io), 25 I/O (206) (io), 26 I/O (209) (io), 28 I/O (224) (io), 29 I/O (227) (io), 30 I/O (230) (io), 31 I/O (233) (io), 32 I/O (236) (io), 33 I/O, GCK2 (239) (io), 39 I/O, GCK3 (247) (io), 40 I/O (HDC) (250) (io), 41 I/O (253) (io), 42 I/O (256) (io), 43 I/O (259) (io), 44 I/O (~{LDC}) (262) (io), 46 I/O (277) (io), 47 I/O (280) (io), 48 I/O (283) (io), 49 I/O (286) (io), 50 I/O (295) (io), 51 I/O (298) (io), 52 I/O (301) (io), 53 I/O (~{INIT}) (304) (io), 56 I/O (307) (io), 57 I/O (310) (io), 58 I/O (313) (io), 59 I/O (316) (io), 60 I/O (325) (io), 61 I/O (328) (io), 62 I/O (331) (io), 63 I/O (334) (io), 65 I/O (349) (io), 66 I/O (352) (io), 67 I/O (355) (io), 68 I/O (358) (io), 69 I/O (361) (io), 70 I/O, GCK4 (364) (io), 75 I/O (D7) (367) (io), 76 I/O, GCK5 (370) (io), 77 I/O (373) (io), 78 I/O (376) (io), 79 I/O (D6) (379) (io), 80 I/O (382) (io), 82 I/O (397) (io), 83 I/O (400) (io), 84 I/O (D5) (403) (io), 85 I/O (~{CS0}) (406) (io), 86 I/O (415) (io), 87 I/O (418) (io), 88 I/O (D4) (421) (io), 89 I/O (424) (io), 92 I/O (D3) (427) (io), 93 I/O (~{RS}) (430) (io), 94 I/O (433) (io), 95 I/O (436) (io), 96 I/O (D2) (445) (io), 97 I/O (448) (io), 98 I/O (451) (io), 99 I/O (454) (io), 101 I/O (D1) (469) (io), 102 I/O (~{RCLK}, RDY/~{BUSY}) (472) (io), 103 I/O (475) (io), 104 I/O (478) (io), 105 I/O (D0, DIN) (481) (io), 106 I/O, GCK6 (DOUT) (484) (io), 111 I/O (A0, ~{WS}) (2) (io), 112 I/O, GCK7 (A1) (5) (io), 113 I/O (8) (io), 114 I/O (11) (io), 115 I/O (CS1, A2) (14) (io), 116 I/O (A3) (17) (io), 117 I/O (20) (io), 119 I/O (32) (io), 120 I/O (35) (io), 121 I/O (A4) (38) (io), 122 I/O (A5) (41) (io), 123 I/O (A21) (50) (io), 124 I/O (A20) (53) (io), 125 I/O (A6) (56) (io), 126 I/O (A7) (59) (io), 129 I/O (A8) (62) (io), 130 I/O (A9) (65) (io), 131 I/O (19) (68) (io), 132 I/O (18) (71) (io), 133 I/O (A10) (80) (io), 134 I/O (A11) (83) (io), 135 I/O (86) (io), 136 I/O (89) (io), 138 I/O (A12) (104) (io), 139 I/O (A13) (107) (io), 140 I/O (110) (io), 141 I/O (113) (io), 142 I/O (A14) (116) (io), 143 I/O, GCK8 (A15) (119) (io)
part B pins: 1 GND (power), 6 I/O, TDI (134) (io), 7 I/O, TCK (137) (io), 8 GND (power), 11 I/O, TMS (158) (io), 17 GND (power), 18 VCC (power), 27 GND (power), 34 O (M1) (242) (io), 35 GND (power), 36 I (M0) (245) (in), 37 VCC (power), 38 I (M2) (246) (in), 45 GND (power), 54 VCC (power), 55 GND (power), 64 GND (power), 71 GND (power), 72 DONE (io), 73 VCC (power), 74 ~{PROGRAM} (in), 81 GND (power), 90 VCC (power), 91 GND (power), 100 GND (power), 107 CCLK (io), 108 VCC (power), 109 O, TDO (0) (hiz), 110 GND (power), 118 GND (power), 127 GND (power), 128 VCC (power), 137 GND (power), 144 VCC (power)

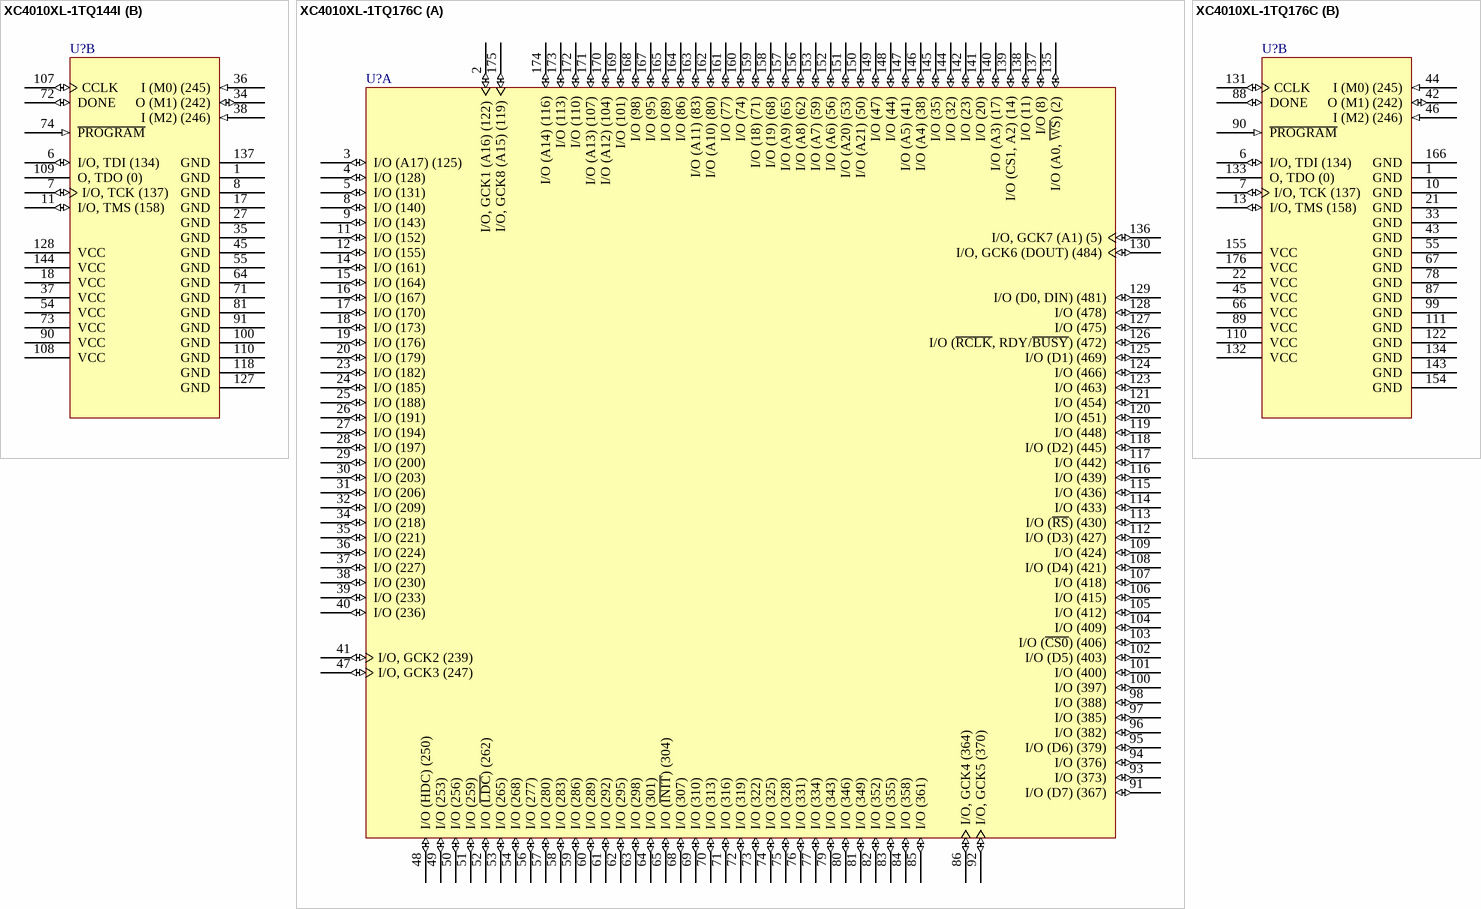
[diagram p36: symbols XC4010XL-1TQ144I to XC4010XL-1TQ176C]

## XC4010XL-1TQ144I
designator U?
XC4000XL FPGA, 113 I/Os, 144-Pin TQFP, Speed Grade 1, Industrial Grade; Published: 28-Feb-2003; LatestRevisionDate: 13-Apr-2006; LatestRevisionNote: IPC-7351 Footprint Added.; DatasheetVersion: ver1.6, May-1999; PackageVersion: ver1.2, Jun-2004; PackageReference: TQ144; Publisher: Altium Limited; PackageDescription: 144-Pin Thin Quad Flat Pack (TQ144); Supplier 1: Digi-Key; Supplier Part Number 1: XC4010XL-1TQ144I-ND; Code_JEDEC: MS-026-BFB; ComponentLink1Description: XC4000XL Datasheet; ComponentLink1URL: http://www.xilinx.com/support/documentation/data_sheets/4000.pdf; ComponentLink2Description: TQ144 Package Drawing; ComponentLink2URL: http://www.xilinx.com/support/documentation/package_specs/tq144.pdf; ComponentLink3Description: XC4000 Documents; ComponentLink3URL: http://www.xilinx.com/support/documentation/xc4000.htm; ComponentLink4Description: Xilinx.com Home; ComponentLink4URL: http://www.xilinx.com
footprint TQ144_N (Thin QFP, 144-Leads, Body 20x20mm, Pitch 0.5mm, IPC Medium Density)
footprint TQ144_L (Thin QFP, 144-Leads, Body 20x20mm, Pitch 0.5mm, IPC High Density)
footprint TQ144_M (Thin QFP, 144-Leads, Body 20x20mm, Pitch 0.5mm, IPC Low Density)
part A pins: 2 I/O, GCK1 (A16) (122) (io), 3 I/O (A17) (125) (io), 4 I/O (128) (io), 5 I/O (131) (io), 9 I/O (152) (io), 10 I/O (155) (io), 12 I/O (161) (io), 13 I/O (170) (io), 14 I/O (173) (io), 15 I/O (176) (io), 16 I/O (179) (io), 19 I/O (182) (io), 20 I/O (185) (io), 21 I/O (188) (io), 22 I/O (191) (io), 23 I/O (200) (io), 24 I/O (203) (io), 25 I/O (206) (io), 26 I/O (209) (io), 28 I/O (224) (io), 29 I/O (227) (io), 30 I/O (230) (io), 31 I/O (233) (io), 32 I/O (236) (io), 33 I/O, GCK2 (239) (io), 39 I/O, GCK3 (247) (io), 40 I/O (HDC) (250) (io), 41 I/O (253) (io), 42 I/O (256) (io), 43 I/O (259) (io), 44 I/O (~{LDC}) (262) (io), 46 I/O (277) (io), 47 I/O (280) (io), 48 I/O (283) (io), 49 I/O (286) (io), 50 I/O (295) (io), 51 I/O (298) (io), 52 I/O (301) (io), 53 I/O (~{INIT}) (304) (io), 56 I/O (307) (io), 57 I/O (310) (io), 58 I/O (313) (io), 59 I/O (316) (io), 60 I/O (325) (io), 61 I/O (328) (io), 62 I/O (331) (io), 63 I/O (334) (io), 65 I/O (349) (io), 66 I/O (352) (io), 67 I/O (355) (io), 68 I/O (358) (io), 69 I/O (361) (io), 70 I/O, GCK4 (364) (io), 75 I/O (D7) (367) (io), 76 I/O, GCK5 (370) (io), 77 I/O (373) (io), 78 I/O (376) (io), 79 I/O (D6) (379) (io), 80 I/O (382) (io), 82 I/O (397) (io), 83 I/O (400) (io), 84 I/O (D5) (403) (io), 85 I/O (~{CS0}) (406) (io), 86 I/O (415) (io), 87 I/O (418) (io), 88 I/O (D4) (421) (io), 89 I/O (424) (io), 92 I/O (D3) (427) (io), 93 I/O (~{RS}) (430) (io), 94 I/O (433) (io), 95 I/O (436) (io), 96 I/O (D2) (445) (io), 97 I/O (448) (io), 98 I/O (451) (io), 99 I/O (454) (io), 101 I/O (D1) (469) (io), 102 I/O (~{RCLK}, RDY/~{BUSY}) (472) (io), 103 I/O (475) (io), 104 I/O (478) (io), 105 I/O (D0, DIN) (481) (io), 106 I/O, GCK6 (DOUT) (484) (io), 111 I/O (A0, ~{WS}) (2) (io), 112 I/O, GCK7 (A1) (5) (io), 113 I/O (8) (io), 114 I/O (11) (io), 115 I/O (CS1, A2) (14) (io), 116 I/O (A3) (17) (io), 117 I/O (20) (io), 119 I/O (32) (io), 120 I/O (35) (io), 121 I/O (A4) (38) (io), 122 I/O (A5) (41) (io), 123 I/O (A21) (50) (io), 124 I/O (A20) (53) (io), 125 I/O (A6) (56) (io), 126 I/O (A7) (59) (io), 129 I/O (A8) (62) (io), 130 I/O (A9) (65) (io), 131 I/O (19) (68) (io), 132 I/O (18) (71) (io), 133 I/O (A10) (80) (io), 134 I/O (A11) (83) (io), 135 I/O (86) (io), 136 I/O (89) (io), 138 I/O (A12) (104) (io), 139 I/O (A13) (107) (io), 140 I/O (110) (io), 141 I/O (113) (io), 142 I/O (A14) (116) (io), 143 I/O, GCK8 (A15) (119) (io)
part B pins: 1 GND (power), 6 I/O, TDI (134) (io), 7 I/O, TCK (137) (io), 8 GND (power), 11 I/O, TMS (158) (io), 17 GND (power), 18 VCC (power), 27 GND (power), 34 O (M1) (242) (io), 35 GND (power), 36 I (M0) (245) (in), 37 VCC (power), 38 I (M2) (246) (in), 45 GND (power), 54 VCC (power), 55 GND (power), 64 GND (power), 71 GND (power), 72 DONE (io), 73 VCC (power), 74 ~{PROGRAM} (in), 81 GND (power), 90 VCC (power), 91 GND (power), 100 GND (power), 107 CCLK (io), 108 VCC (power), 109 O, TDO (0) (hiz), 110 GND (power), 118 GND (power), 127 GND (power), 128 VCC (power), 137 GND (power), 144 VCC (power)

## XC4010XL-1TQ176C
designator U?
XC4000XL FPGA, 145 I/Os, 176-Pin TQFP, Speed Grade 1, Commercial Grade; Published: 28-Feb-2003; LatestRevisionDate: 13-Apr-2006; LatestRevisionNote: IPC-7351 Footprint Added.; DatasheetVersion: ver1.6, May-1999; PackageVersion: ver1.2, Jun-2004; PackageReference: TQ176; Publisher: Altium Limited; PackageDescription: 176-Pin Thin Quad Flat Pack (TQ176); Supplier 1: Digi-Key; Supplier Part Number 1: XC4010XL-1TQ176C-ND; Code_JEDEC: MS-026-BGA; ComponentLink1Description: XC4000XL Datasheet; ComponentLink1URL: http://www.xilinx.com/support/documentation/data_sheets/4000.pdf; ComponentLink2Description: Discontinuation Notice; ComponentLink2URL: http://www.xilinx.com/support/documentation/customer_notices/xcn07022.pdf; ComponentLink3Description: TQ176 Package Drawing; ComponentLink3URL: http://www.xilinx.com/support/documentation/package_specs/tq176.pdf; ComponentLink4Description: XC4000 Documents; ComponentLink4URL: http://www.xilinx.com/support/documentation/xc4000.htm; ComponentLink5Description: Xilinx.com Home; ComponentLink5URL: http://www.xilinx.com
footprint TQ176_N (Thin QFP, 176-Leads, Body 24x24mm, Pitch 0.5mm, IPC Medium Density)
footprint TQ176_L (Thin QFP, 176-Leads, Body 24x24mm, Pitch 0.5mm, IPC High Density)
footprint TQ176_M (Thin QFP, 176-Leads, Body 24x24mm, Pitch 0.5mm, IPC Low Density)
part A pins: 2 I/O, GCK1 (A16) (122) (io), 3 I/O (A17) (125) (io), 4 I/O (128) (io), 5 I/O (131) (io), 8 I/O (140) (io), 9 I/O (143) (io), 11 I/O (152) (io), 12 I/O (155) (io), 14 I/O (161) (io), 15 I/O (164) (io), 16 I/O (167) (io), 17 I/O (170) (io), 18 I/O (173) (io), 19 I/O (176) (io), 20 I/O (179) (io), 23 I/O (182) (io), 24 I/O (185) (io), 25 I/O (188) (io), 26 I/O (191) (io), 27 I/O (194) (io), 28 I/O (197) (io), 29 I/O (200) (io), 30 I/O (203) (io), 31 I/O (206) (io), 32 I/O (209) (io), 34 I/O (218) (io), 35 I/O (221) (io), 36 I/O (224) (io), 37 I/O (227) (io), 38 I/O (230) (io), 39 I/O (233) (io), 40 I/O (236) (io), 41 I/O, GCK2 (239) (io), 47 I/O, GCK3 (247) (io), 48 I/O (HDC) (250) (io), 49 I/O (253) (io), 50 I/O (256) (io), 51 I/O (259) (io), 52 I/O (~{LDC}) (262) (io), 53 I/O (265) (io), 54 I/O (268) (io), 56 I/O (277) (io), 57 I/O (280) (io), 58 I/O (283) (io), 59 I/O (286) (io), 60 I/O (289) (io), 61 I/O (292) (io), 62 I/O (295) (io), 63 I/O (298) (io), 64 I/O (301) (io), 65 I/O (~{INIT}) (304) (io), 68 I/O (307) (io), 69 I/O (310) (io), 70 I/O (313) (io), 71 I/O (316) (io), 72 I/O (319) (io), 73 I/O (322) (io), 74 I/O (325) (io), 75 I/O (328) (io), 76 I/O (331) (io), 77 I/O (334) (io), 79 I/O (343) (io), 80 I/O (346) (io), 81 I/O (349) (io), 82 I/O (352) (io), 83 I/O (355) (io), 84 I/O (358) (io), 85 I/O (361) (io), 86 I/O, GCK4 (364) (io), 91 I/O (D7) (367) (io), 92 I/O, GCK5 (370) (io), 93 I/O (373) (io), 94 I/O (376) (io), 95 I/O (D6) (379) (io), 96 I/O (382) (io), 97 I/O (385) (io), 98 I/O (388) (io), 100 I/O (397) (io), 101 I/O (400) (io), 102 I/O (D5) (403) (io), 103 I/O (~{CS0}) (406) (io), 104 I/O (409) (io), 105 I/O (412) (io), 106 I/O (415) (io), 107 I/O (418) (io), 108 I/O (D4) (421) (io), 109 I/O (424) (io), 112 I/O (D3) (427) (io), 113 I/O (~{RS}) (430) (io), 114 I/O (433) (io), 115 I/O (436) (io), 116 I/O (439) (io), 117 I/O (442) (io), 118 I/O (D2) (445) (io), 119 I/O (448) (io), 120 I/O (451) (io), 121 I/O (454) (io), 123 I/O (463) (io), 124 I/O (466) (io), 125 I/O (D1) (469) (io), 126 I/O (~{RCLK}, RDY/~{BUSY}) (472) (io), 127 I/O (475) (io), 128 I/O (478) (io), 129 I/O (D0, DIN) (481) (io), 130 I/O, GCK6 (DOUT) (484) (io), 135 I/O (A0, ~{WS}) (2) (io), 136 I/O, GCK7 (A1) (5) (io), 137 I/O (8) (io), 138 I/O (11) (io), 139 I/O (CS1, A2) (14) (io), 140 I/O (A3) (17) (io), 141 I/O (20) (io), 142 I/O (23) (io), 144 I/O (32) (io), 145 I/O (35) (io), 146 I/O (A4) (38) (io), 147 I/O (A5) (41) (io), 148 I/O (44) (io), 149 I/O (47) (io), 150 I/O (A21) (50) (io), 151 I/O (A20) (53) (io), 152 I/O (A6) (56) (io), 153 I/O (A7) (59) (io), 156 I/O (A8) (62) (io), 157 I/O (A9) (65) (io), 158 I/O (19) (68) (io), 159 I/O (18) (71) (io), 160 I/O (74) (io), 161 I/O (77) (io), 162 I/O (A10) (80) (io), 163 I/O (A11) (83) (io), 164 I/O (86) (io), 165 I/O (89) (io), 167 I/O (95) (io), 168 I/O (98) (io), 169 I/O (101) (io), 170 I/O (A12) (104) (io), 171 I/O (A13) (107) (io), 172 I/O (110) (io), 173 I/O (113) (io), 174 I/O (A14) (116) (io), 175 I/O, GCK8 (A15) (119) (io)
part B pins: 1 GND (power), 6 I/O, TDI (134) (io), 7 I/O, TCK (137) (io), 10 GND (power), 13 I/O, TMS (158) (io), 21 GND (power), 22 VCC (power), 33 GND (power), 42 O (M1) (242) (io), 43 GND (power), 44 I (M0) (245) (in), 45 VCC (power), 46 I (M2) (246) (in), 55 GND (power), 66 VCC (power), 67 GND (power), 78 GND (power), 87 GND (power), 88 DONE (io), 89 VCC (power), 90 ~{PROGRAM} (in), 99 GND (power), 110 VCC (power), 111 GND (power), 122 GND (power), 131 CCLK (io), 132 VCC (power), 133 O, TDO (0) (hiz), 134 GND (power), 143 GND (power), 154 GND (power), 155 VCC (power), 166 GND (power), 176 VCC (power)

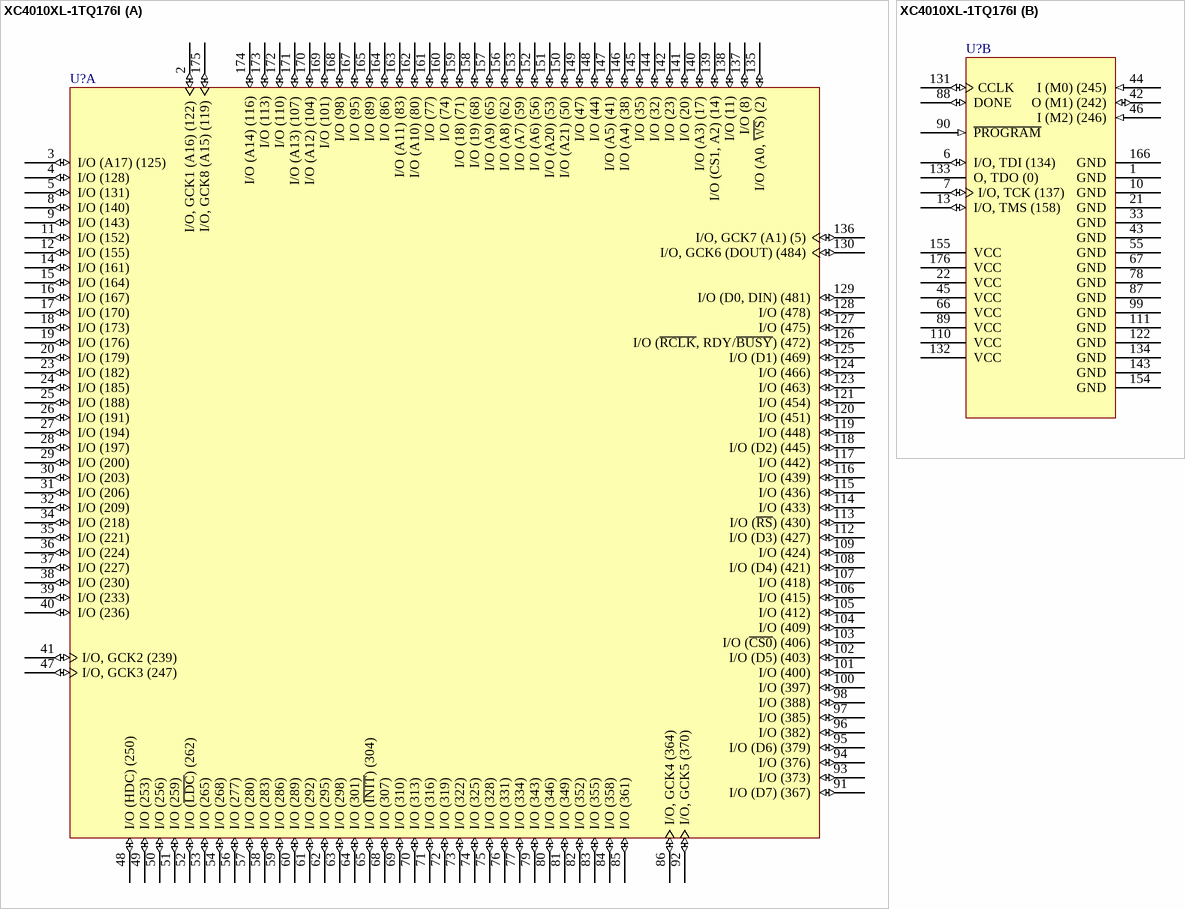
[diagram p37: symbol XC4010XL-1TQ176I]